# Altium schematic symbol library mw.SchLib: 179 symbols (part 1 of 2)
Pins are listed as number, name and electrical type; pins without a type are passive.

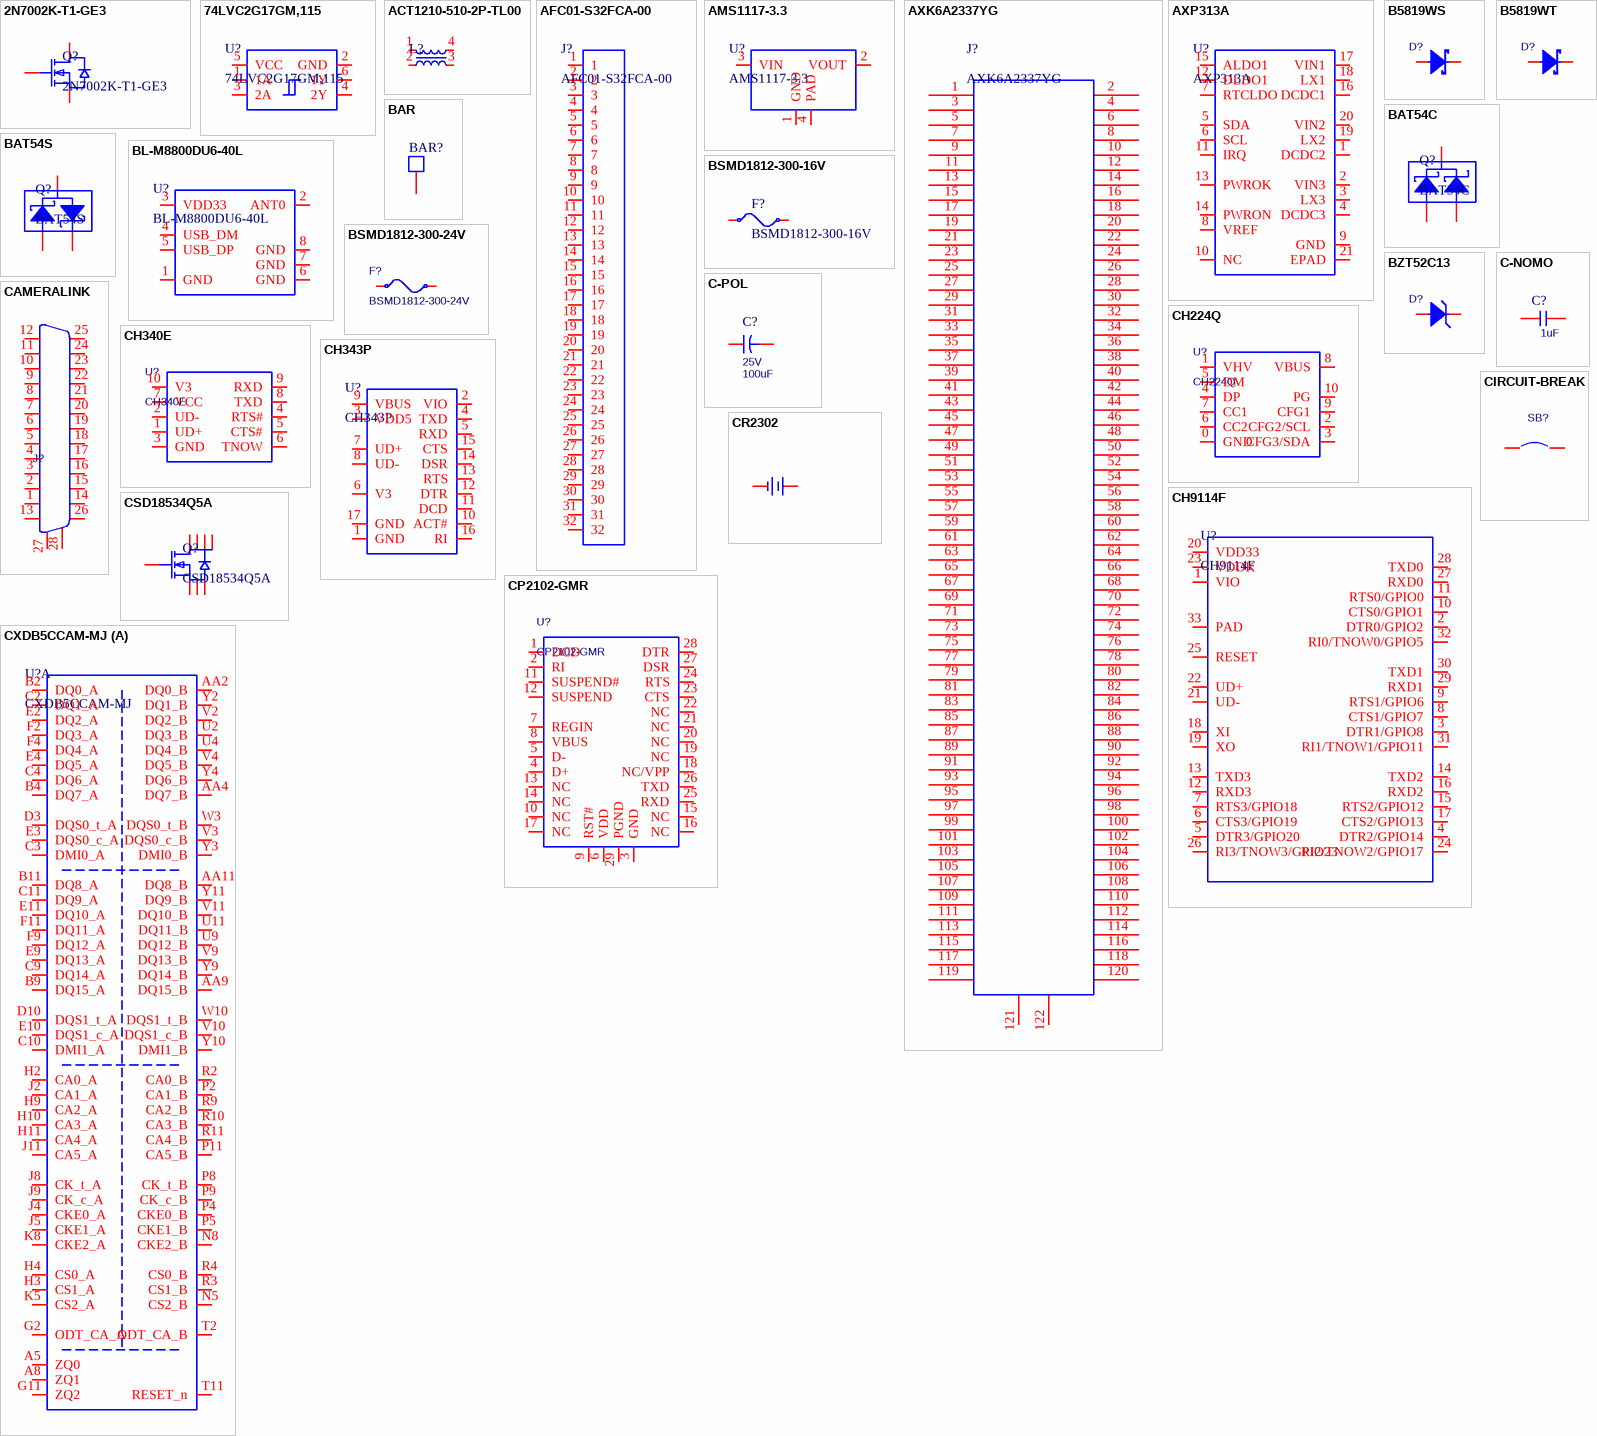
[diagram p0: symbols 2N7002K-T1-GE3 to CXDB5CCAM-MJ]

## 2N7002K-T1-GE3
designator Q?
NMOS; Supplier 1: LCSC; Supplier Part Number 1: C81445
footprint 2N7002K-T1-GE3 (SOT23, 3-Leads, Body 2.90x2.40mm, Pitch 0.95mm, IPC High Density)
pins: D, G, S

## 74LVC2G17GM,115
designator U?
SCHMITT - 2bits; Supplier 1: LCSC; Supplier Part Number 1: C548609
footprint 74LVC2G17GM,115 (PSON, 6-Leads, Body 1.45x1.00mm, Pitch 0.60mm, IPC Medium Density)
pins: 1 1A, 2 GND, 3 2A, 4 2Y, 5 VCC, 6 1Y

## ACT1210-510-2P-TL00
designator L?
CM CHOKE; Supplier 1: LCSC; Supplier Part Number 1: C95572
footprint ACT1210-510-2P-TL00
pins: 1, 2, 3, 4

## AFC01-S32FCA-00
designator J?
FPC - flip, 32p, 0.5mm; Supplier 1: LCSC; Supplier Part Number 1: C262672
footprint AFC01-S32FCA-00
pins: 1, 2, 3, 4, 5, 6, 7, 8, 9, 10, 11, 12, 13, 14, 15, 16, 17, 18, 19, 20, 21, 22, 23, 24, 25, 26, 27, 28, 29, 30, 31, 32

## AMS1117-3.3
designator U?
LDO; Supplier 1: LCSC; Supplier Part Number 1: C6186
footprint AMS1117-3.3 (SOT223, 4-Leads, Body 6.50x7.00mm (avg), Pitch 2.29mm, IPC Medium Density)
pins: 1 GND, 2 VOUT, 3 VIN, 4 PAD

## AXK6A2337YG
designator J?
B2B; Supplier 1: LCSC; Supplier Part Number 1: C2843222
footprint AXK6A2337YG
pins: 1, 2, 3, 4, 5, 6, 7, 8, 9, 10, 11, 12, 13, 14, 15, 16, 17, 18, 19, 20, 21, 22, 23, 24, 25, 26, 27, 28, 29, 30, 31, 32, 33, 34, 35, 36, 37, 38, 39, 40, 41, 42, 43, 44, 45, 46, 47, 48, 49, 50, 51, 52, 53, 54, 55, 56, 57, 58, 59, 60, 61, 62, 63, 64, 65, 66, 67, 68, 69, 70, 71, 72, 73, 74, 75, 76, 77, 78, 79, 80, 81, 82, 83, 84, 85, 86, 87, 88, 89, 90, 91, 92, 93, 94, 95, 96, 97, 98, 99, 100, 101, 102, 103, 104, 105, 106, 107, 108, 109, 110, 111, 112, 113, 114, 115, 116, 117, 118, 119, 120, 121, 122

## AXP313A
designator U?
PMIC; Supplier 1: LCSC; Supplier Part Number 1: C5365290
footprint AXP313A (QFN, 20-Leads, Body 3.00x3.00mm, Pitch 0.40mm, Thermal Pad 1.65x1.65mm, IPC Medium Density)
pins: 1 DCDC2, 2 VIN3, 3 LX3, 4 DCDC3, 5 SDA, 6 SCL, 7 RTCLDO, 8 VREF, 9 GND, 10 NC, 11 IRQ, 12 DLDO1, 13 PWROK, 14 PWRON, 15 ALDO1, 16 DCDC1, 17 VIN1, 18 LX1, 19 LX2, 20 VIN2, 21 EPAD

## B5819WS
designator D?  (value not drawn)
SCHOTTKY; Supplier 1: LCSC; Supplier Part Number 1: C7420331
footprint B5819WS (SOIC, 2-Leads, Body 1.30x1.70mm, Pitch 1.27mm, IPC Medium Density)
pins: 1, 2

## B5819WT
designator D?  (value not drawn)
SCHOTTKY; Supplier 1: LCSC; Supplier Part Number 1: C7502714
footprint B5819WT (SODFL, 2-Leads, Body 1.20x0.80mm, IPC Medium Density)
pins: 1, 2

## BAR
designator BAR?
SMD copper bar for current reinforcement
footprint BAR3X4T1
footprint BAR3X4T2
footprint BAR3X6T1
footprint BAR3X6T2
footprint BAR3X8T1
footprint BAR3X8T2
footprint BAR3X10T1
footprint BAR3X10T2
footprint BAR3X12T1
footprint BAR3X12T2
footprint BAR3X14T1
footprint BAR3X14T2
footprint BAR3X16T1
footprint BAR3X16T2
footprint BAR3X18T1
footprint BAR3X18T2
footprint BAR3X20T1
footprint BAR3X20T2
footprint BAR4X4T1
footprint BAR4X4T2
footprint BAR4X6T1
footprint BAR4X6T2
footprint BAR4X8T1
footprint BAR4X8T2
footprint BAR4X10T1
footprint BAR4X10T2
footprint BAR4X12T1
footprint BAR4X12T2
footprint BAR4X14T1
footprint BAR4X14T2
footprint BAR4X16T1
footprint BAR4X16T2
footprint BAR4X18T1
footprint BAR4X18T2
footprint BAR4X20T1
footprint BAR4X20T2
pins: 1

## BAT54C
designator Q?
SCHOTTKY; Supplier Part Number 1: C82467; Supplier 1: LCSC
footprint SOT-23
pins: 1, 2, 3

## BAT54S
designator Q?
SCHOTTKY; Supplier 1: LCSC; Supplier Part Number 1: C19726
footprint SOT-23
pins: 1, 2, 3

## BL-M8800DU6-40L
designator U?
BTWIFI; Supplier 1: taobao; Supplier Part Number 1: BL-M8800DU6-40L
footprint BL-M8800DU6-40L
pins: 1 GND, 2 ANT0, 3 VDD33, 4 USB_DM, 5 USB_DP, 6 GND, 7 GND, 8 GND

## BSMD1812-300-16V
designator F?
FUSE; Supplier 1: LCSC; Supplier Part Number 1: C883162
footprint F1812 (FUSE_1812)
pins: 1, 2

## BSMD1812-300-24V
designator F?
FUSE; Supplier 1: LCSC; Supplier Part Number 1: C7500481
footprint BSMD1812-300-24V (Chip Diode, 2-Leads, Body 7.16x3.15mm, IPC High Density)
pins: 1, 2

## BZT52C13
designator D?  (value not drawn)
ZENER; Supplier 1: LCSC; Supplier Part Number 1: C173428
footprint BZT52C13 (TSSOP, 2-Leads, Body 1.65x2.65mm, Pitch 0.50mm, IPC High Density)
pins: 1 C, 2 A

## C-NOMO
designator C?  value 1uF
voltage: 25V; precision: 5%; Supplier 1: *; Supplier Part Number 1: *
footprint C0402 (Chip Capacitor, 2-Leads, Body 1.00x0.50mm, IPC Low Density)
footprint C0603 (Chip Capacitor, 2-Leads, Body 1.60x0.80mm, IPC Low Density)
footprint C0805 (Chip Capacitor, 2-Leads, Body 2.00x1.25mm, IPC Low Density)
footprint C1206 (Chip Capacitor, 2-Leads, Body 3.20x1.60mm, IPC Low Density)
footprint C1210 (Chip Capacitor, 2-Leads, Body 3.20x2.50mm, IPC Low Density)
footprint C1812 (Chip Capacitor, 2-Leads, Body 4.50x3.20mm, IPC Low Density)
footprint C2220 (Chip Capacitor, 2-Leads, Body 5.70x5.00mm, IPC Low Density)
footprint C0201 (Chip Capacitor, 2-Leads, Body 0.60x0.30mm, IPC High Density)
pins: 1, 2

## C-POL
designator C?  value 100uF  voltage: 25V
footprint C7343 (CASE-E tan cap)
pins: 1, 2

## CAMERALINK
designator J?  (value not drawn)
footprint cameralink-12226-8250
pins: 1, 2, 3, 4, 5, 6, 7, 8, 9, 10, 11, 12, 13, 14, 15, 16, 17, 18, 19, 20, 21, 22, 23, 24, 25, 26, 27, 28

## CH224Q
designator U?
PD3.2; Supplier 1: LCSC; Supplier Part Number 1: C46061833
footprint CH224Q (PSON, 10-Leads, Body 2.00x2.00mm, Pitch 0.40mm, Thermal Pad 1.50x0.85mm, IPC Medium Density)
pins: 0 GND, 1 VHV, 2 CFG2/SCL, 3 CFG3/SDA, 4 DP, 5 DM, 6 CC2, 7 CC1, 8 VBUS, 9 CFG1, 10 PG

## CH340E
designator U?
USB UART; Supplier 1: LCSC; Supplier Part Number 1: C99652
footprint CH340E (TSSOP, 10-Leads, Body 3.00x3.00mm, Pitch 0.50mm, IPC Medium Density)
pins: 1 UD+, 2 UD-, 3 GND, 4 RTS#, 5 CTS#, 6 TNOW, 7 VCC, 8 TXD, 9 RXD, 10 V3

## CH343P
designator U?
USB UART; Supplier 1: LCSC; Supplier Part Number 1: C2846043
footprint CH343P (QFN, 16-Leads, Body 3.00x3.00mm, Pitch 0.50mm, Thermal Pad 1.75x1.75mm, IPC Medium Density)
pins: 1 GND, 2 VIO, 3 VDD5, 4 TXD, 5 RXD, 6 V3, 7 UD+, 8 UD-, 9 VBUS, 10 ACT#, 11 DCD, 12 DTR, 13 RTS, 14 DSR, 15 CTS, 16 RI, 17 GND

## CH9114F
designator U?
USB UART; Supplier 1: LCSC; Supplier Part Number 1: C46061832
footprint CH9114F (QFN, 32-Leads, Body 4.00x4.00mm, Pitch 0.40mm, Thermal Pad 2.70x2.70mm, IPC Medium Density)
pins: 1 VIO, 2 DTR0/GPIO2, 3 DTR1/GPIO8, 4 DTR2/GPIO14, 5 DTR3/GPIO20, 6 CTS3/GPIO19, 7 RTS3/GPIO18, 8 CTS1/GPIO7, 9 RTS1/GPIO6, 10 CTS0/GPIO1, 11 RTS0/GPIO0, 12 RXD3, 13 TXD3, 14 TXD2, 15 RTS2/GPIO12, 16 RXD2, 17 CTS2/GPIO13, 18 XI, 19 XO, 20 VDD33, 21 UD-, 22 UD+, 23 VDDK, 24 RI2/TNOW2/GPIO17, 25 RESET, 26 RI3/TNOW3/GPIO23, 27 RXD0, 28 TXD0, 29 RXD1, 30 TXD1, 31 RI1/TNOW1/GPIO11, 32 RI0/TNOW0/GPIO5, 33 PAD

## CIRCUIT-BREAK
designator SB?, comment Circuit Breaker  (value not drawn)
footprint CIRCUIT_BREAKER
pins: 1, 2

## CP2102-GMR
designator U?
USB UART; Supplier 1: LCSC; Supplier Part Number 1: C6568
footprint CP2102GMR (QFN, 28-Leads, Body 5.00x5.00mm, Pitch 0.50mm, Thermal Pad 3.20x3.20mm, IPC High Density)
pins: 1 DCD, 2 RI, 3 GND, 4 D+, 5 D-, 6 VDD, 7 REGIN, 8 VBUS, 9 RST#, 10 NC, 11 SUSPEND#, 12 SUSPEND, 13 NC, 14 NC, 15 NC, 16 NC, 17 NC, 18 NC/VPP, 19 NC, 20 NC, 21 NC, 22 NC, 23 CTS, 24 RTS, 25 RXD, 26 TXD, 27 DSR, 28 DTR, 29 PGND

## CR2302
designator J?  (value not drawn)
frequency: 25MHZ
footprint CR2302
pins: 1, 2

## CSD18534Q5A
designator Q?
NMOS; Supplier 1: LCSC; Supplier Part Number 1: C115943
footprint CSD18534Q5A
pins: 1 S, 2 S, 3 S, 4 G, 5 D, 6 D, 7 D, 8 D

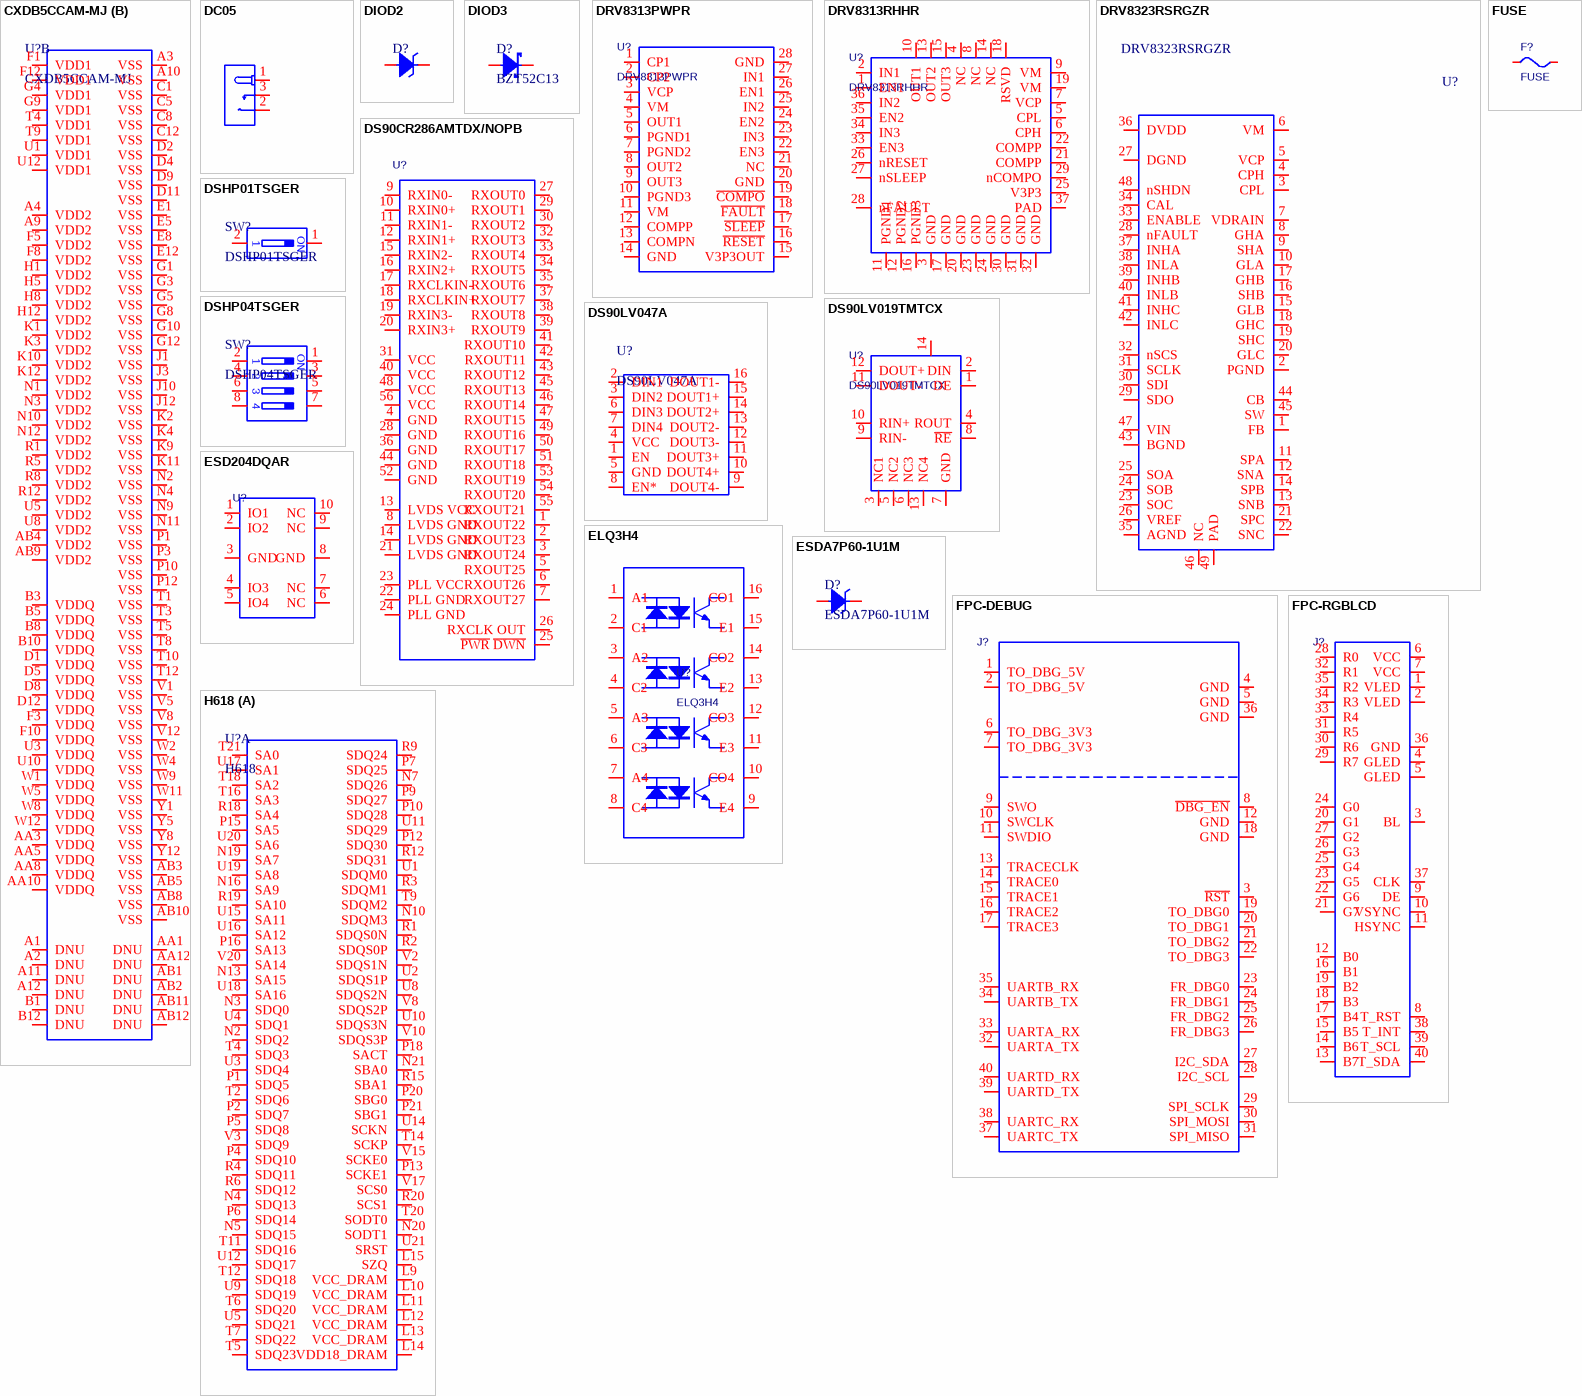
[diagram p1: symbols CXDB5CCAM-MJ to H618]

## CXDB5CCAM-MJ
designator U?
DDR - LPDDR4; Supplier 1: LCSC; Supplier Part Number 1: C39047067
footprint CXDB5CCAM-MJ (BGA, 200-Leads, Body 10.00x15.00mmx1.00mm, Pitch 0.65mm)
part A pins: A5 ZQ0, A8 ZQ1, AA2 DQ0_B, AA4 DQ7_B, AA9 DQ15_B, AA11 DQ8_B, B2 DQ0_A, B4 DQ7_A, B9 DQ15_A, B11 DQ8_A, C2 DQ1_A, C3 DMI0_A, C4 DQ6_A, C9 DQ14_A, C10 DMI1_A, C11 DQ9_A, D3 DQS0_t_A, D10 DQS1_t_A, E2 DQ2_A, E3 DQS0_c_A, E4 DQ5_A, E9 DQ13_A, E10 DQS1_c_A, E11 DQ10_A, F2 DQ3_A, F4 DQ4_A, F9 DQ12_A, F11 DQ11_A, G2 ODT_CA_A, G11 ZQ2, H2 CA0_A, H3 CS1_A, H4 CS0_A, H9 CA2_A, H10 CA3_A, H11 CA4_A, J2 CA1_A, J4 CKE0_A, J5 CKE1_A, J8 CK_t_A, J9 CK_c_A, J11 CA5_A, K5 CS2_A, K8 CKE2_A, N5 CS2_B, N8 CKE2_B, P2 CA1_B, P4 CKE0_B, P5 CKE1_B, P8 CK_t_B, P9 CK_c_B, P11 CA5_B, R2 CA0_B, R3 CS1_B, R4 CS0_B, R9 CA2_B, R10 CA3_B, R11 CA4_B, T2 ODT_CA_B, T11 RESET_n, U2 DQ3_B, U4 DQ4_B, U9 DQ12_B, U11 DQ11_B, V2 DQ2_B, V3 DQS0_c_B, V4 DQ5_B, V9 DQ13_B, V10 DQS1_c_B, V11 DQ10_B, W3 DQS0_t_B, W10 DQS1_t_B, Y2 DQ1_B, Y3 DMI0_B, Y4 DQ6_B, Y9 DQ14_B, Y10 DMI1_B, Y11 DQ9_B
part B pins: A1 DNU, A2 DNU, A3 VSS, A4 VDD2, A9 VDD2, A10 VSS, A11 DNU, A12 DNU, AA1 DNU, AA3 VDDQ, AA5 VDDQ, AA8 VDDQ, AA10 VDDQ, AA12 DNU, AB1 DNU, AB2 DNU, AB3 VSS, AB4 VDD2, AB5 VSS, AB8 VSS, AB9 VDD2, AB10 VSS, AB11 DNU, AB12 DNU, B1 DNU, B3 VDDQ, B5 VDDQ, B8 VDDQ, B10 VDDQ, B12 DNU, C1 VSS, C5 VSS, C8 VSS, C12 VSS, D1 VDDQ, D2 VSS, D4 VSS, D5 VDDQ, D8 VDDQ, D9 VSS, D11 VSS, D12 VDDQ, E1 VSS, E5 VSS, E8 VSS, E12 VSS, F1 VDD1, F3 VDDQ, F5 VDD2, F8 VDD2, F10 VDDQ, F12 VDD1, G1 VSS, G3 VSS, G4 VDD1, G5 VSS, G8 VSS, G9 VDD1, G10 VSS, G12 VSS, H1 VDD2, H5 VDD2, H8 VDD2, H12 VDD2, J1 VSS, J3 VSS, J10 VSS, J12 VSS, K1 VDD2, K2 VSS, K3 VDD2, K4 VSS, K9 VSS, K10 VDD2, K11 VSS, K12 VDD2, N1 VDD2, N2 VSS, N3 VDD2, N4 VSS, N9 VSS, N10 VDD2, N11 VSS, N12 VDD2, P1 VSS, P3 VSS, P10 VSS, P12 VSS, R1 VDD2, R5 VDD2, R8 VDD2, R12 VDD2, T1 VSS, T3 VSS, T4 VDD1, T5 VSS, T8 VSS, T9 VDD1, T10 VSS, T12 VSS, U1 VDD1, U3 VDDQ, U5 VDD2, U8 VDD2, U10 VDDQ, U12 VDD1, V1 VSS, V5 VSS, V8 VSS, V12 VSS, W1 VDDQ, W2 VSS, W4 VSS, W5 VDDQ, W8 VDDQ, W9 VSS, W11 VSS, W12 VDDQ, Y1 VSS, Y5 VSS, Y8 VSS, Y12 VSS

## DC05
designator J?
Supplier 1: LCSC; Supplier Part Number 1: C136744
footprint DC05
pins: 1, 2, 3

## DIOD2
designator D?
Supplier 1: LCSC; Supplier Part Number 1: C22365180
footprint SOD-523
footprint DO-214AC
footprint SOD-123
pins: 1, 2

## DIOD3
designator D?, comment BZT52C13
HelpURL: ./referencce/bzt52c13.pdf#page=(1); Supplier 1: Supplier 1; Supplier Part Number 1: C727005
footprint DO-214AC
footprint SOD-123
pins: 1, 2

## DRV8313PWPR
designator U?
BLDC DRV
footprint DRV8313PWPR_TSOP (TSOP, 28-Leads, Body 9.70x4.40mm, Pitch 0.65mm, IPC Medium Density)
pins: 1 CP1, 2 CP2, 3 VCP, 4 VM, 5 OUT1, 6 PGND1, 7 PGND2, 8 OUT2, 9 OUT3, 10 PGND3, 11 VM, 12 COMPP, 13 COMPN, 14 GND, 15 V3P3OUT, 16 ~{RESET}, 17 ~{SLEEP}, 18 ~{FAULT}, 19 ~{COMPO}, 20 GND, 21 NC, 22 EN3, 23 IN3, 24 EN2, 25 IN2, 26 EN1, 27 IN1, 28 GND

## DRV8313RHHR
designator U?
BLDC DRV; Supplier 1: LCSC; Supplier Part Number 1: C165154
footprint DRV8313RHHR (PQFN, 36-Leads, Body 6.00x6.00mm, Pitch 0.50mm, Thermal Pad 4.40x4.40mm, IPC Medium Density)
pins: 1 EN1, 2 IN1, 3 GND, 4 NC, 5 CPL, 6 CPH, 7 VCP, 8 NC, 9 VM, 10 OUT1, 11 PGND1, 12 PGND2, 13 OUT2, 14 NC, 15 OUT3, 16 PGND3, 17 GND, 18 RSVD, 19 VM, 20 GND, 21 COMPP, 22 COMPP, 23 GND, 24 GND, 25 V3P3, 26 nRESET, 27 nSLEEP, 28 nFAULT, 29 nCOMPO, 30 GND, 31 GND, 32 GND, 33 EN3, 34 IN3, 35 EN2, 36 IN2, 37 PAD

## DRV8323RSRGZR
designator U?
BLDC DRV; Supplier 1: LCSC; Supplier Part Number 1: C545497
footprint DRV8323RSRGZR (PQFN, 48-Leads, Body 7.00x7.00mm, Pitch 0.50mm, Thermal Pad 5.15x5.15mm, IPC Medium Density)
pins: 1 FB "Buck feedback input. A resistor divider from the buck post inductor output to this pin sets the buck output voltage.", 2 PGND "Device power ground. Connect to system ground.", 3 CPL "Charge pump switching node. Connect a X5R or X7R, 47-nF, VM-rated ceramic capacitor between the CPH and CPL pins.", 4 CPH "Charge pump switching node. Connect a X5R or X7R, 47-nF, VM-rated ceramic capacitor between the CPH and CPL pins.", 5 VCP "Charge pump output. Connect a X5R or X7R, 1-µF, 16-V ceramic capacitor between the VCP and VM pins.", 6 VM "Gate driver power supply input. Connect to the bridge power supply. Connect a X5R or X7R, 0.1-µF, VM-rated ceramic and greater then or equal to 10-uF local capacitance between the VM and PGND pins.", 7 VDRAIN "High-side MOSFET drain sense input. Connect to the common point of the MOSFET drains.", 8 GHA "High-side gate driver output. Connect to the gate of the high-side power MOSFET.", 9 SHA "High-side source sense input. Connect to the high-side power MOSFET source.", 10 GLA "Low-side gate driver output. Connect to the gate of the low-side power MOSFET.", 11 SPA "Low-side current shunt amplifier input. Connect to the low-side power MOSFET source and high-side of the current shunt resistor.", 12 SNA "Current sense amplifier input. Connect to the low-side of the current shunt resistor.", 13 SNB "Current sense amplifier input. Connect to the low-side of the current shunt resistor.", 14 SPB "Low-side current shunt amplifier input. Connect to the low-side power MOSFET source and high-side of the current shunt resistor.", 15 GLB "Low-side gate driver output. Connect to the gate of the low-side power MOSFET.", 16 SHB "High-side source sense input. Connect to the high-side power MOSFET source.", 17 GHB "High-side gate driver output. Connect to the gate of the high-side power MOSFET.", 18 GHC "High-side gate driver output. Connect to the gate of the high-side power MOSFET.", 19 SHC "High-side source sense input. Connect to the high-side power MOSFET source.", 20 GLC "Low-side gate driver output. Connect to the gate of the low-side power MOSFET.", 21 SPC "Low-side current shunt amplifier input. Connect to the low-side power MOSFET source and high-side of the current shunt resistor.", 22 SNC "Current sense amplifier input. Connect to the low-side of the current shunt resistor.", 23 SOC "Current sense amplifier output.", 24 SOB "Current sense amplifier output.", 25 SOA "Current sense amplifier output.", 26 VREF "Current sense amplifier power supply input and reference. Connect a X5R or X7R, 0.1-µF, 6.3-V ceramic capacitor between the VREF and AGND pins.", 27 DGND "Device ground. Connect to system ground.", 28 nFAULT "Fault indicator output. This pin is pulled logic low during a fault condition and requires an external pullup resistor.", 29 SDO "Serial data output. Data is shifted out on the rising edge of the SCLK pin. This pin requires an external pullup resistor.", 30 SDI "Serial data input. Data is captured on the falling edge of the SCLK pin.", 31 SCLK "Serial clock input. Serial data is shifted out and captured on the corresponding rising and falling edge on this pin.", 32 nSCS "Serial chip select. A logic low on this pin enables serial interface communication.", 33 ENABLE "Gate driver enable. When this pin is logic low the device goes to a low-power sleep mode. An 8 to 40-µs low pulse can be used to reset fault conditions.", 34 CAL "Amplifier calibration input. Set logic high to internally short amplifier inputs and perform auto offset calibration.", 35 AGND "Device analog ground. Connect to system ground.", 36 DVDD "3.3-V internal regulator output. Connect a X5R or X7R, 1-µF, 6.3-V ceramic capacitor between the DVDD and AGND pins. This regulator can source up to 30 mA externally.", 37 INHA "High-side gate driver control input. This pin controls the output of the high-side gate driver.", 38 INLA "Low-side gate driver control input. This pin controls the output of the low-side gate driver.", 39 INHB "High-side gate driver control input. This pin controls the output of the high-side gate driver.", 40 INLB "Low-side gate driver control input. This pin controls the output of the low-side gate driver.", 41 INHC "High-side gate driver control input. This pin controls the output of the high-side gate driver.", 42 INLC "Low-side gate driver control input. This pin controls the output of the low-side gate driver.", 43 BGND "Buck regulator ground. Connect to system ground.", 44 CB "Buck regulator bootstrap input. Connect a X5R or X7R, 0.1-µF, 16-V, capacitor between the CB and SW pins.", 45 SW "Buck switch node. Connect this pin to an inductor, diode, and the CB bootstrap capacitor.", 46 NC "No internal connection. This pin can be left floating or connected to system ground.", 47 VIN "Buck regulator power supply input. Place an X5R or X7R, VM-rated ceramic capacitor between the VIN and BGND pins.", 48 nSHDN "Buck shutdown input. Enable and disable input (high voltage tolerant). Internal pullup current source. Pull lower than 1.25 V to disable. Float to enable. Establish input undervoltage lockout with two resistor divider.", 49 PAD "Must be connected to ground"

## DS90CR286AMTDX/NOPB
designator U?  (value not drawn)
LVDS; Supplier 1: LCSC; Supplier Part Number 1: C311790
footprint DS90CR286AMTDX/NOPB
pins: 1 RXOUT22, 2 RXOUT23, 3 RXOUT24, 4 GND, 5 RXOUT25, 6 RXOUT26, 7 RXOUT27, 8 LVDS GND, 9 RXIN0-, 10 RXIN0+, 11 RXIN1-, 12 RXIN1+, 13 LVDS VCC, 14 LVDS GND, 15 RXIN2-, 16 RXIN2+, 17 RXCLKIN-, 18 RXCLKIN+, 19 RXIN3-, 20 RXIN3+, 21 LVDS GND, 22 PLL GND, 23 PLL VCC, 24 PLL GND, 25 ~{PWR} ~{DWN}, 26 RXCLK OUT, 27 RXOUT0, 28 GND, 29 RXOUT1, 30 RXOUT2, 31 VCC, 32 RXOUT3, 33 RXOUT4, 34 RXOUT5, 35 RXOUT6, 36 GND, 37 RXOUT7, 38 RXOUT8, 39 RXOUT9, 40 VCC, 41 RXOUT10, 42 RXOUT11, 43 RXOUT12, 44 GND, 45 RXOUT13, 46 RXOUT14, 47 RXOUT15, 48 VCC, 49 RXOUT16, 50 RXOUT17, 51 RXOUT18, 52 GND, 53 RXOUT19, 54 RXOUT20, 55 RXOUT21, 56 VCC

## DS90LV019TMTCX
designator U?
LVDS; Supplier 1: LCSC; Supplier Part Number 1: C87061
footprint DS90LV019TMTCX (TSOP, 14-Leads, Body 5.00x4.40mm, Pitch 0.65mm, IPC Medium Density)
pins: 1 DE, 2 DIN, 3 NC1, 4 ROUT, 5 NC2, 6 NC3, 7 GND, 8 ~{RE}, 9 RIN-, 10 RIN+, 11 DOUT-, 12 DOUT+, 13 NC4, 14

## DS90LV047A
designator U?
LVDS; Supplier 1: LCSC; Supplier Part Number 1: C87097
footprint DS90LV047
pins: 1 EN, 2 DIN1, 3 DIN2, 4 VCC, 5 GND, 6 DIN3, 7 DIN4, 8 EN*, 9 DOUT4-, 10 DOUT4+, 11 DOUT3+, 12 DOUT3-, 13 DOUT2-, 14 DOUT2+, 15 DOUT1+, 16 DOUT1-

## DSHP01TSGER
designator SW?
SWITCH - SPST, 1ch; Supplier 1: LCSC; Supplier Part Number 1: C3293141
footprint DSHP01TSGER
pins: 1, 2
text: ON

## DSHP04TSGER
designator SW?
SWITCH - SPST, 4ch; Supplier 1: LCSC; Supplier Part Number 1: C3293144
footprint DSHP04TSGER
pins: 1, 2, 3, 4, 5, 6, 7, 8
text: ON

## ELQ3H4
designator U?
OPTICAL COUPLER; Supplier 1: LCSC; Supplier Part Number 1: C150957
footprint ELQ3H4
pins: 1 A1, 2 C1, 3 A2, 4 C2, 5 A3, 6 C3, 7 A4, 8 C4, 9 E4, 10 CO4, 11 E3, 12 CO3, 13 E2, 14 CO2, 15 E1, 16 CO1

## ESD204DQAR
designator U?  (value not drawn)
TVS/ESD - 4 ch, 3.6V, 5V, 0.55pF@1MHz, 30KV; Supplier 1: LCSC; Supplier Part Number 1: C553132
footprint ESD204DQAR
pins: 1 IO1, 2 IO2, 3 GND, 4 IO3, 5 IO4, 6 NC, 7 NC, 8 GND, 9 NC, 10 NC

## ESDA7P60-1U1M
designator D?
TVS/ESD - 1 ch, 5V, 6V, 400pF@1MHz, 30KV; Supplier 1: LCSC; Supplier Part Number 1: C7202956
footprint ESDA7P60-1U1M (DFN, 2-Leads, Body 1.00x1.60mm, Pitch 1.10mm, IPC Medium Density)
pins: 1, 2

## FPC-DEBUG
designator J?, comment AFC01-S40FCA-00  (value not drawn)
FPC; Supplier 1: LCSC; Supplier Part Number 1: C262674
footprint AFC01-S40FCA-00
pins: 1 TO_DBG_5V, 2 TO_DBG_5V, 3 ~{RST}, 4 GND, 5 GND, 6 TO_DBG_3V3, 7 TO_DBG_3V3, 8 ~{DBG_EN}, 9 SWO, 10 SWCLK, 11 SWDIO, 12 GND, 13 TRACECLK, 14 TRACE0, 15 TRACE1, 16 TRACE2, 17 TRACE3, 18 GND, 19 TO_DBG0, 20 TO_DBG1, 21 TO_DBG2, 22 TO_DBG3, 23 FR_DBG0, 24 FR_DBG1, 25 FR_DBG2, 26 FR_DBG3, 27 I2C_SDA, 28 I2C_SCL, 29 SPI_SCLK, 30 SPI_MOSI, 31 SPI_MISO, 32 UARTA_TX, 33 UARTA_RX, 34 UARTB_TX, 35 UARTB_RX, 36 GND, 37 UARTC_TX, 38 UARTC_RX, 39 UARTD_TX, 40 UARTD_RX

## FPC-RGBLCD
designator J?, comment AFC01-S40FCA-00  (value not drawn)
FPC; Supplier 1: LCSC; Supplier Part Number 1: C262674
footprint AFC01-S40FCA-00
pins: 1 VLED, 2 VLED, 3 BL, 4 GLED, 5 GLED, 6 VCC, 7 VCC, 8 T_RST, 9 DE, 10 VSYNC, 11 HSYNC, 12 B0, 13 B7, 14 B6, 15 B5, 16 B1, 17 B4, 18 B3, 19 B2, 20 G1, 21 G7, 22 G6, 23 G5, 24 G0, 25 G4, 26 G3, 27 G2, 28 R0, 29 R7, 30 R6, 31 R5, 32 R1, 33 R4, 34 R3, 35 R2, 36 GND, 37 CLK, 38 T_INT, 39 T_SCL, 40 T_SDA

## FUSE
designator F?
footprint F1812 (FUSE_1812)
pins: 1, 2

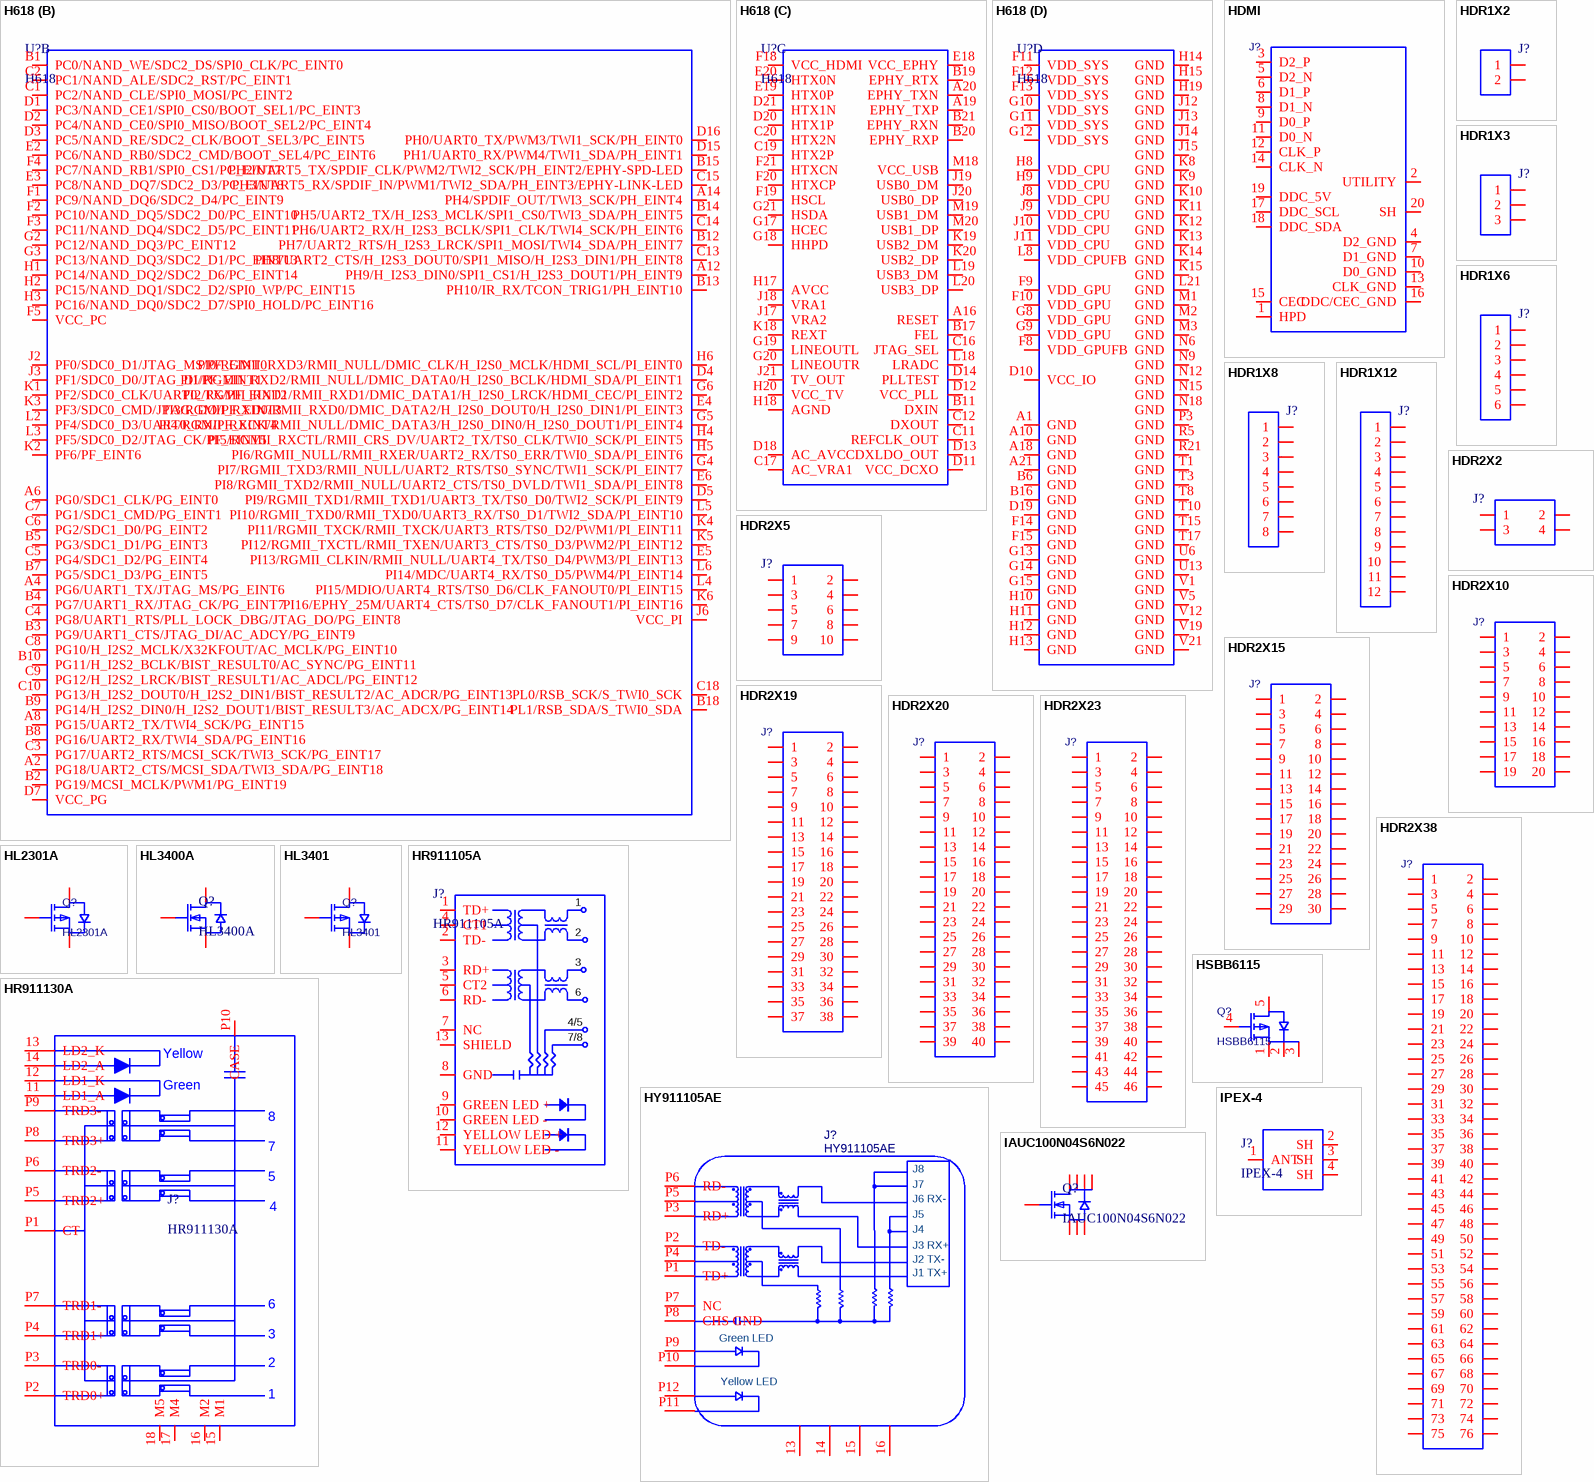
[diagram p2: symbols H618 to IPEX-4]

## H618
designator U?
SOC; Supplier 1: LCSC; Supplier Part Number 1: C19189292
footprint H618 (BGA, 284-Leads, Body 14.00x12.00mmx1.17mm, Pitch 0.65mm)
part A pins: L9 VCC_DRAM, L10 VCC_DRAM, L11 VCC_DRAM, L12 VCC_DRAM, L13 VCC_DRAM, L14 VDD18_DRAM, L15 SZQ, N2 SDQ2, N3 SDQ0, N4 SDQ13, N5 SDQ15, N7 SDQ26, N10 SDQM3, N13 SA15, N16 SA9, N19 SA7, N20 SODT1, N21 SBA0, P1 SDQ5, P2 SDQ7, P4 SDQ10, P5 SDQ8, P6 SDQ14, P7 SDQ25, P9 SDQ27, P10 SDQ28, P12 SDQ30, P13 SCKE1, P15 SA5, P16 SA13, P18 SACT, P20 SBG0, P21 SBG1, R1 SDQS0N, R2 SDQS0P, R3 SDQM1, R4 SDQ11, R6 SDQ12, R9 SDQ24, R12 SDQ31, R15 SBA1, R18 SA4, R19 SA10, R20 SCS1, T2 SDQ6, T4 SDQ3, T5 SDQ23, T6 SDQ20, T7 SDQ22, T9 SDQM2, T11 SDQ16, T12 SDQ18, T14 SCKP, T16 SA3, T18 SA2, T20 SODT0, T21 SA0, U1 SDQM0, U2 SDQS1P, U3 SDQ4, U4 SDQ1, U5 SDQ21, U8 SDQS2N, U9 SDQ19, U10 SDQS3N, U11 SDQ29, U12 SDQ17, U14 SCKN, U15 SA11, U16 SA12, U17 SA1, U18 SA16, U19 SA8, U20 SA6, U21 SRST, V2 SDQS1N, V3 SDQ9, V8 SDQS2P, V10 SDQS3P, V15 SCKE0, V17 SCS0, V20 SA14
part B pins: A2 PG18/UART2_CTS/MCSI_SDA/TWI3_SDA/PG_EINT18, A4 PG6/UART1_TX/JTAG_MS/PG_EINT6, A6 PG0/SDC1_CLK/PG_EINT0, A8 PG15/UART2_TX/TWI4_SCK/PG_EINT15, A12 PH9/H_I2S3_DIN0/SPI1_CS1/H_I2S3_DOUT1/PH_EINT9, A14 PH4/SPDIF_OUT/TWI3_SCK/PH_EINT4, B1 PC0/NAND_WE/SDC2_DS/SPI0_CLK/PC_EINT0, B2 PG19/MCSI_MCLK/PWM1/PG_EINT19, B3 PG9/UART1_CTS/JTAG_DI/AC_ADCY/PG_EINT9, B4 PG7/UART1_RX/JTAG_CK/PG_EINT7, B5 PG3/SDC1_D1/PG_EINT3, B7 PG5/SDC1_D3/PG_EINT5, B8 PG16/UART2_RX/TWI4_SDA/PG_EINT16, B9 PG14/H_I2S2_DIN0/H_I2S2_DOUT1/BIST_RESULT3/AC_ADCX/PG_EINT14, B10 PG11/H_I2S2_BCLK/BIST_RESULT0/AC_SYNC/PG_EINT11, B12 PH7/UART2_RTS/H_I2S3_LRCK/SPI1_MOSI/TWI4_SDA/PH_EINT7, B13 PH10/IR_RX/TCON_TRIG1/PH_EINT10, B14 PH5/UART2_TX/H_I2S3_MCLK/SPI1_CS0/TWI3_SDA/PH_EINT5, B15 PH2/UART5_TX/SPDIF_CLK/PWM2/TWI2_SCK/PH_EINT2/EPHY-SPD-LED, B18 PL1/RSB_SDA/S_TWI0_SDA, C1 PC2/NAND_CLE/SPI0_MOSI/PC_EINT2, C2 PC1/NAND_ALE/SDC2_RST/PC_EINT1, C3 PG17/UART2_RTS/MCSI_SCK/TWI3_SCK/PG_EINT17, C4 PG8/UART1_RTS/PLL_LOCK_DBG/JTAG_DO/PG_EINT8, C5 PG4/SDC1_D2/PG_EINT4, C6 PG2/SDC1_D0/PG_EINT2, C7 PG1/SDC1_CMD/PG_EINT1, C8 PG10/H_I2S2_MCLK/X32KFOUT/AC_MCLK/PG_EINT10, C9 PG12/H_I2S2_LRCK/BIST_RESULT1/AC_ADCL/PG_EINT12, C10 PG13/H_I2S2_DOUT0/H_I2S2_DIN1/BIST_RESULT2/AC_ADCR/PG_EINT13, C13 PH8/UART2_CTS/H_I2S3_DOUT0/SPI1_MISO/H_I2S3_DIN1/PH_EINT8, C14 PH6/UART2_RX/H_I2S3_BCLK/SPI1_CLK/TWI4_SCK/PH_EINT6, C15 PH3/UART5_RX/SPDIF_IN/PWM1/TWI2_SDA/PH_EINT3/EPHY-LINK-LED, C18 PL0/RSB_SCK/S_TWI0_SCK, D1 PC3/NAND_CE1/SPI0_CS0/BOOT_SEL1/PC_EINT3, D2 PC4/NAND_CE0/SPI0_MISO/BOOT_SEL2/PC_EINT4, D3 PC5/NAND_RE/SDC2_CLK/BOOT_SEL3/PC_EINT5, D4 PI1/RGMII_RXD2/RMII_NULL/DMIC_DATA0/H_I2S0_BCLK/HDMI_SDA/PI_EINT1, D5 PI9/RGMII_TXD1/RMII_TXD1/UART3_TX/TS0_D0/TWI2_SCK/PI_EINT9, D7 VCC_PG, D15 PH1/UART0_RX/PWM4/TWI1_SDA/PH_EINT1, D16 PH0/UART0_TX/PWM3/TWI1_SCK/PH_EINT0, E2 PC6/NAND_RB0/SDC2_CMD/BOOT_SEL4/PC_EINT6, E3 PC8/NAND_DQ7/SDC2_D3/PC_EINT8, E4 PI3/RGMII_RXD0/RMII_RXD0/DMIC_DATA2/H_I2S0_DOUT0/H_I2S0_DIN1/PI_EINT3, E5 PI13/RGMII_CLKIN/RMII_NULL/UART4_TX/TS0_D4/PWM3/PI_EINT13, E6 PI8/RGMII_TXD2/RMII_NULL/UART2_CTS/TS0_DVLD/TWI1_SDA/PI_EINT8, F1 PC9/NAND_DQ6/SDC2_D4/PC_EINT9, F2 PC10/NAND_DQ5/SDC2_D0/PC_EINT10, F3 PC11/NAND_DQ4/SDC2_D5/PC_EINT11, F4 PC7/NAND_RB1/SPI0_CS1/PC_EINT7, F5 VCC_PC, G2 PC12/NAND_DQ3/PC_EINT12, G3 PC13/NAND_DQ3/SDC2_D1/PC_EINT13, G4 PI7/RGMII_TXD3/RMII_NULL/UART2_RTS/TS0_SYNC/TWI1_SCK/PI_EINT7, G5 PI4/RGMII_RXCK/RMII_NULL/DMIC_DATA3/H_I2S0_DIN0/H_I2S0_DOUT1/PI_EINT4, G6 PI2/RGMII_RXD1/RMII_RXD1/DMIC_DATA1/H_I2S0_LRCK/HDMI_CEC/PI_EINT2, H1 PC14/NAND_DQ2/SDC2_D6/PC_EINT14, H2 PC15/NAND_DQ1/SDC2_D2/SPI0_WP/PC_EINT15, H3 PC16/NAND_DQ0/SDC2_D7/SPI0_HOLD/PC_EINT16, H4 PI5/RGMII_RXCTL/RMII_CRS_DV/UART2_TX/TS0_CLK/TWI0_SCK/PI_EINT5, H5 PI6/RGMII_NULL/RMII_RXER/UART2_RX/TS0_ERR/TWI0_SDA/PI_EINT6, H6 PI0/RGMII_RXD3/RMII_NULL/DMIC_CLK/H_I2S0_MCLK/HDMI_SCL/PI_EINT0, J2 PF0/SDC0_D1/JTAG_MS/PF_EINT0, J3 PF1/SDC0_D0/JTAG_DI/PF_EINT1, J6 VCC_PI, K1 PF2/SDC0_CLK/UART0_TX/PF_EINT2, K2 PF6/PF_EINT6, K3 PF3/SDC0_CMD/JTAG_DO/PF_EINT3, K4 PI11/RGMII_TXCK/RMII_TXCK/UART3_RTS/TS0_D2/PWM1/PI_EINT11, K5 PI12/RGMII_TXCTL/RMII_TXEN/UART3_CTS/TS0_D3/PWM2/PI_EINT12, K6 PI16/EPHY_25M/UART4_CTS/TS0_D7/CLK_FANOUT1/PI_EINT16, L2 PF4/SDC0_D3/UART0_RX/PF_EINT4, L3 PF5/SDC0_D2/JTAG_CK/PF_EINT5, L4 PI15/MDIO/UART4_RTS/TS0_D6/CLK_FANOUT0/PI_EINT15, L5 PI10/RGMII_TXD0/RMII_TXD0/UART3_RX/TS0_D1/TWI2_SDA/PI_EINT10, L6 PI14/MDC/UART4_RX/TS0_D5/PWM4/PI_EINT14
part C pins: A16 RESET, A19 EPHY_TXP, A20 EPHY_TXN, B11 DXIN, B17 FEL, B19 EPHY_RTX, B20 EPHY_RXP, B21 EPHY_RXN, C11 REFCLK_OUT, C12 DXOUT, C16 JTAG_SEL, C17 AC_VRA1, C19 HTX2P, C20 HTX2N, D11 VCC_DCXO, D12 VCC_PLL, D13 DXLDO_OUT, D14 PLLTEST, D18 AC_AVCC, D20 HTX1P, D21 HTX1N, E18 VCC_EPHY, E19 HTX0P, E20 HTX0N, F18 VCC_HDMI, F19 HSCL, F20 HTXCP, F21 HTXCN, G17 HCEC, G18 HHPD, G19 LINEOUTL, G20 LINEOUTR, G21 HSDA, H17 AVCC, H18 AGND, H20 VCC_TV, J17 VRA2, J18 VRA1, J19 USB0_DM, J20 USB0_DP, J21 TV_OUT, K18 REXT, K19 USB2_DM, K20 USB2_DP, L18 LRADC, L19 USB3_DM, L20 USB3_DP, M18 VCC_USB, M19 USB1_DM, M20 USB1_DP
part D pins: A1 GND, A10 GND, A18 GND, A21 GND, B6 GND, B16 GND, D10 VCC_IO, D19 GND, F8 VDD_GPUFB, F9 VDD_GPU, F10 VDD_GPU, F11 VDD_SYS, F12 VDD_SYS, F13 VDD_SYS, F14 GND, F15 GND, G8 VDD_GPU, G9 VDD_GPU, G10 VDD_SYS, G11 VDD_SYS, G12 VDD_SYS, G13 GND, G14 GND, G15 GND, H8 VDD_CPU, H9 VDD_CPU, H10 GND, H11 GND, H12 GND, H13 GND, H14 GND, H15 GND, H19 GND, J8 VDD_CPU, J9 VDD_CPU, J10 VDD_CPU, J11 VDD_CPU, J12 GND, J13 GND, J14 GND, J15 GND, K8 GND, K9 GND, K10 GND, K11 GND, K12 GND, K13 GND, K14 GND, K15 GND, L8 VDD_CPUFB, L21 GND, M1 GND, M2 GND, M3 GND, N6 GND, N9 GND, N12 GND, N15 GND, N18 GND, P3 GND, R5 GND, R21 GND, T1 GND, T3 GND, T8 GND, T10 GND, T15 GND, T17 GND, U6 GND, U13 GND, V1 GND, V5 GND, V12 GND, V19 GND, V21 GND

## HDMI
designator J?  (value not drawn)
Supplier 1: LCSC; Supplier Part Number 1: C711358
footprint HDMI-D
pins: 1 HPD, 2 UTILITY, 3 D2_P, 4 D2_GND, 5 D2_N, 6 D1_P, 7 D1_GND, 8 D1_N, 9 D0_P, 10 D0_GND, 11 D0_N, 12 CLK_P, 13 CLK_GND, 14 CLK_N, 15 CEC, 16 DDC/CEC_GND, 17 DDC_SCL, 18 DDC_SDA, 19 DDC_5V, 20 SH

## HDR1X2
designator J?
Supplier 1: LCSC; Supplier Part Number 1: C474881; Supplier 2: LCSC; Supplier Part Number 2: C225477; Supplier 3: LCSC; Supplier Part Number 3: C20079; Supplier 4: LCSC; Supplier Part Number 4: C475124
footprint HDR1X2 (Connector; Header; 5x2 Position)
footprint KF301-5.0-2P (5.0间距螺钉端子)
footprint XH-2A (XH2.54接线端子2P)
footprint KF141R-2.54-2P (Spring-loaded terminal block)
pins: 1, 2

## HDR1X3
designator J?
Supplier 1: LCSC; Supplier Part Number 1: C474884; Supplier 2: LCSC; Supplier Part Number 2: C609572
footprint HDR1X3 (Connector; Header; 5x2 Position)
footprint KF301-5.0-3P
pins: 1, 2, 3

## HDR1X6
designator J?
Supplier 1: LCSC; Supplier Part Number 1: C474881; Supplier 2: LCSC; Supplier Part Number 2: C225477; Supplier 3: LCSC; Supplier Part Number 3: C20079; Supplier 4: LCSC; Supplier Part Number 4: C475128
footprint KF301-5.0-6P
footprint KF141R-2.54-6P (Spring-loaded terminal block)
pins: 1, 2, 3, 4, 5, 6

## HDR1X8
designator J?
Supplier 1: LCSC; Supplier Part Number 1: C474881; Supplier 2: LCSC; Supplier Part Number 2: C225477; Supplier 3: LCSC; Supplier Part Number 3: C20079
footprint KF301-5.0-8P
footprint KF15EDGK-3.81-8P
pins: 1, 2, 3, 4, 5, 6, 7, 8

## HDR1X12
designator J?
Supplier 1: LCSC; Supplier Part Number 1: C2840012; Supplier 2: LCSC; Supplier Part Number 2: C475133
footprint HDR1X12 (Connector; Header; 5x2 Position)
footprint KF141R-2.54-12P (Spring-loaded terminal block)
pins: 1, 2, 3, 4, 5, 6, 7, 8, 9, 10, 11, 12

## HDR2X2
designator J?
Supplier 1: LCSC; Supplier Part Number 1: C225517
footprint HDR2X2 (Connector; Header)
pins: 1, 2, 3, 4

## HDR2X5
designator J?
Supplier 1: LCSC; Supplier 2: LCSC; Supplier Part Number 2: C5665; Supplier Part Number 3: C22392240; Supplier 3: LCSC; Supplier Part Number 4: C3975188; Supplier 4: LCSC; Supplier Part Number 1: C225520
footprint HDR2X5 (Connector; Header; 5x2 Position)
footprint HDR2X5-NJ
footprint HDR2X5-1.27-SMD (Connector; Header; 5x2 Position)
pins: 1, 2, 3, 4, 5, 6, 7, 8, 9, 10

## HDR2X10
designator J?
Supplier 1: LCSC; Supplier Part Number 1: C124359; Supplier 2: LCSC; Supplier Part Number 2: C3405
footprint HDR2X10-NJ
footprint HDR2X10 (Connector; Header;)
pins: 1, 2, 3, 4, 5, 6, 7, 8, 9, 10, 11, 12, 13, 14, 15, 16, 17, 18, 19, 20

## HDR2X15
designator J?  (value not drawn)
Supplier 1: LCSC; Supplier Part Number 1: C124359; Supplier 2: LCSC; Supplier Part Number 2: C3405
footprint HDR2X15 (Connector; Header;)
pins: 1, 2, 3, 4, 5, 6, 7, 8, 9, 10, 11, 12, 13, 14, 15, 16, 17, 18, 19, 20, 21, 22, 23, 24, 25, 26, 27, 28, 29, 30

## HDR2X19
designator J?
Supplier 1: LCSC; Supplier Part Number 1: C124383
footprint HDR2X19-1.27-SMD
pins: 1, 2, 3, 4, 5, 6, 7, 8, 9, 10, 11, 12, 13, 14, 15, 16, 17, 18, 19, 20, 21, 22, 23, 24, 25, 26, 27, 28, 29, 30, 31, 32, 33, 34, 35, 36, 37, 38

## HDR2X20
designator J?
Supplier 1: LCSC; Supplier Part Number 1: C124383
footprint HDR2X20 (Connector; Header;)
pins: 1, 2, 3, 4, 5, 6, 7, 8, 9, 10, 11, 12, 13, 14, 15, 16, 17, 18, 19, 20, 21, 22, 23, 24, 25, 26, 27, 28, 29, 30, 31, 32, 33, 34, 35, 36, 37, 38, 39, 40

## HDR2X23
designator J?
footprint HDR2X23-1.27-SMD
pins: 1, 2, 3, 4, 5, 6, 7, 8, 9, 10, 11, 12, 13, 14, 15, 16, 17, 18, 19, 20, 21, 22, 23, 24, 25, 26, 27, 28, 29, 30, 31, 32, 33, 34, 35, 36, 37, 38, 39, 40, 41, 42, 43, 44, 45, 46

## HDR2X38
designator J?
footprint HDR2X38-1.27-SMD
pins: 1, 2, 3, 4, 5, 6, 7, 8, 9, 10, 11, 12, 13, 14, 15, 16, 17, 18, 19, 20, 21, 22, 23, 24, 25, 26, 27, 28, 29, 30, 31, 32, 33, 34, 35, 36, 37, 38, 39, 40, 41, 42, 43, 44, 45, 46, 47, 48, 49, 50, 51, 52, 53, 54, 55, 56, 57, 58, 59, 60, 61, 62, 63, 64, 65, 66, 67, 68, 69, 70, 71, 72, 73, 74, 75, 76

## HL2301A
designator Q?
PMOS; Supplier 1: LCSC; Supplier Part Number 1: C7420344
footprint HL2301A (SOT23, 3-Leads, Body 2.90x2.40mm, Pitch 0.95mm, IPC Medium Density)
pins: D, G, S

## HL3400A
designator Q?
NMOS; Supplier 1: LCSC; Supplier Part Number 1: C7420348
footprint HL3400A (SOT23, 3-Leads, Body 2.90x2.40mm, Pitch 0.95mm, IPC Medium Density)
pins: D, G, S

## HL3401
designator Q?
PMOS; Supplier 1: LCSC; Supplier Part Number 1: C22469449
footprint HL3401 (SOT23, 3-Leads, Body 2.90x2.40mm, Pitch 0.95mm, IPC Medium Density)
pins: D, G, S

## HR911105A
designator J?
RJ45 - 100Mbps, Mag, LED; Supplier 1: LCSC; Supplier Part Number 1: C12074
footprint HR911105A
pins: 1 TD+, 2 TD-, 3 RD+, 4 CT1, 5 CT2, 6 RD-, 7 NC, 8 GND, 9 GREEN LED +, 10 GREEN LED -, 11 YELLOW LED -, 12 YELLOW LED +, 13 SHIELD
text: 4/5; 7/8

## HR911130A
designator J?
RJ45 - 1000Mbps, Mag, LED; Supplier 1: LCSC; Supplier Part Number 1: C54408
footprint RJ45-GE
pins: 11 LD1_A, 12 LD1_K, 13 LD2_K, 14 LD2_A, 15 M1, 16 M2, 17 M4, 18 M5, P1 CT, P2 TRD0+, P3 TRD0-, P4 TRD1+, P5 TRD2+, P6 TRD2-, P7 TRD1-, P8 TRD3+, P9 TRD3-, P10 CASE
text: Yellow; Green; 8; 7; 5; 4; 6; 3; 2; 1

## HSBB6115
designator Q?
PMOS; Supplier 1: LCSC; Supplier Part Number 1: C845604
footprint HSBB6115
pins: 1 S, 2 S, 3 S, 4 G, 5 D

## HY911105AE
designator J?
RJ45; Supplier 1: LCSC; Supplier Part Number 1: C69427
footprint RJ45
pins: 13, 14, 15, 16, P1 TD+, P2 TD-, P3 RD+, P4 4, P5 5, P6 RD-, P7 NC, P8 CHS GND, P9 9, P10 10, P11 11, P12 12
text: J8; J7; J6 RX-; J5; J4; J3 RX+; J2 TX-; J1 TX+; Green LED; Yellow LED

## IAUC100N04S6N022
designator Q?
NMOS; Supplier 1: LCSC; Supplier Part Number 1: C535695
footprint IAUC100N04S6N022
pins: 1 S, 2 S, 3 S, 4 G, 5 D, 6 D, 7 D, 8 D

## IPEX-4
designator J?
SOCKET - RF; Suppiler 1: LCSC; Supplier Part Number 1: C47986642
footprint IPEX-4
pins: 1 ANT, 2 SH, 3 SH, 4 SH

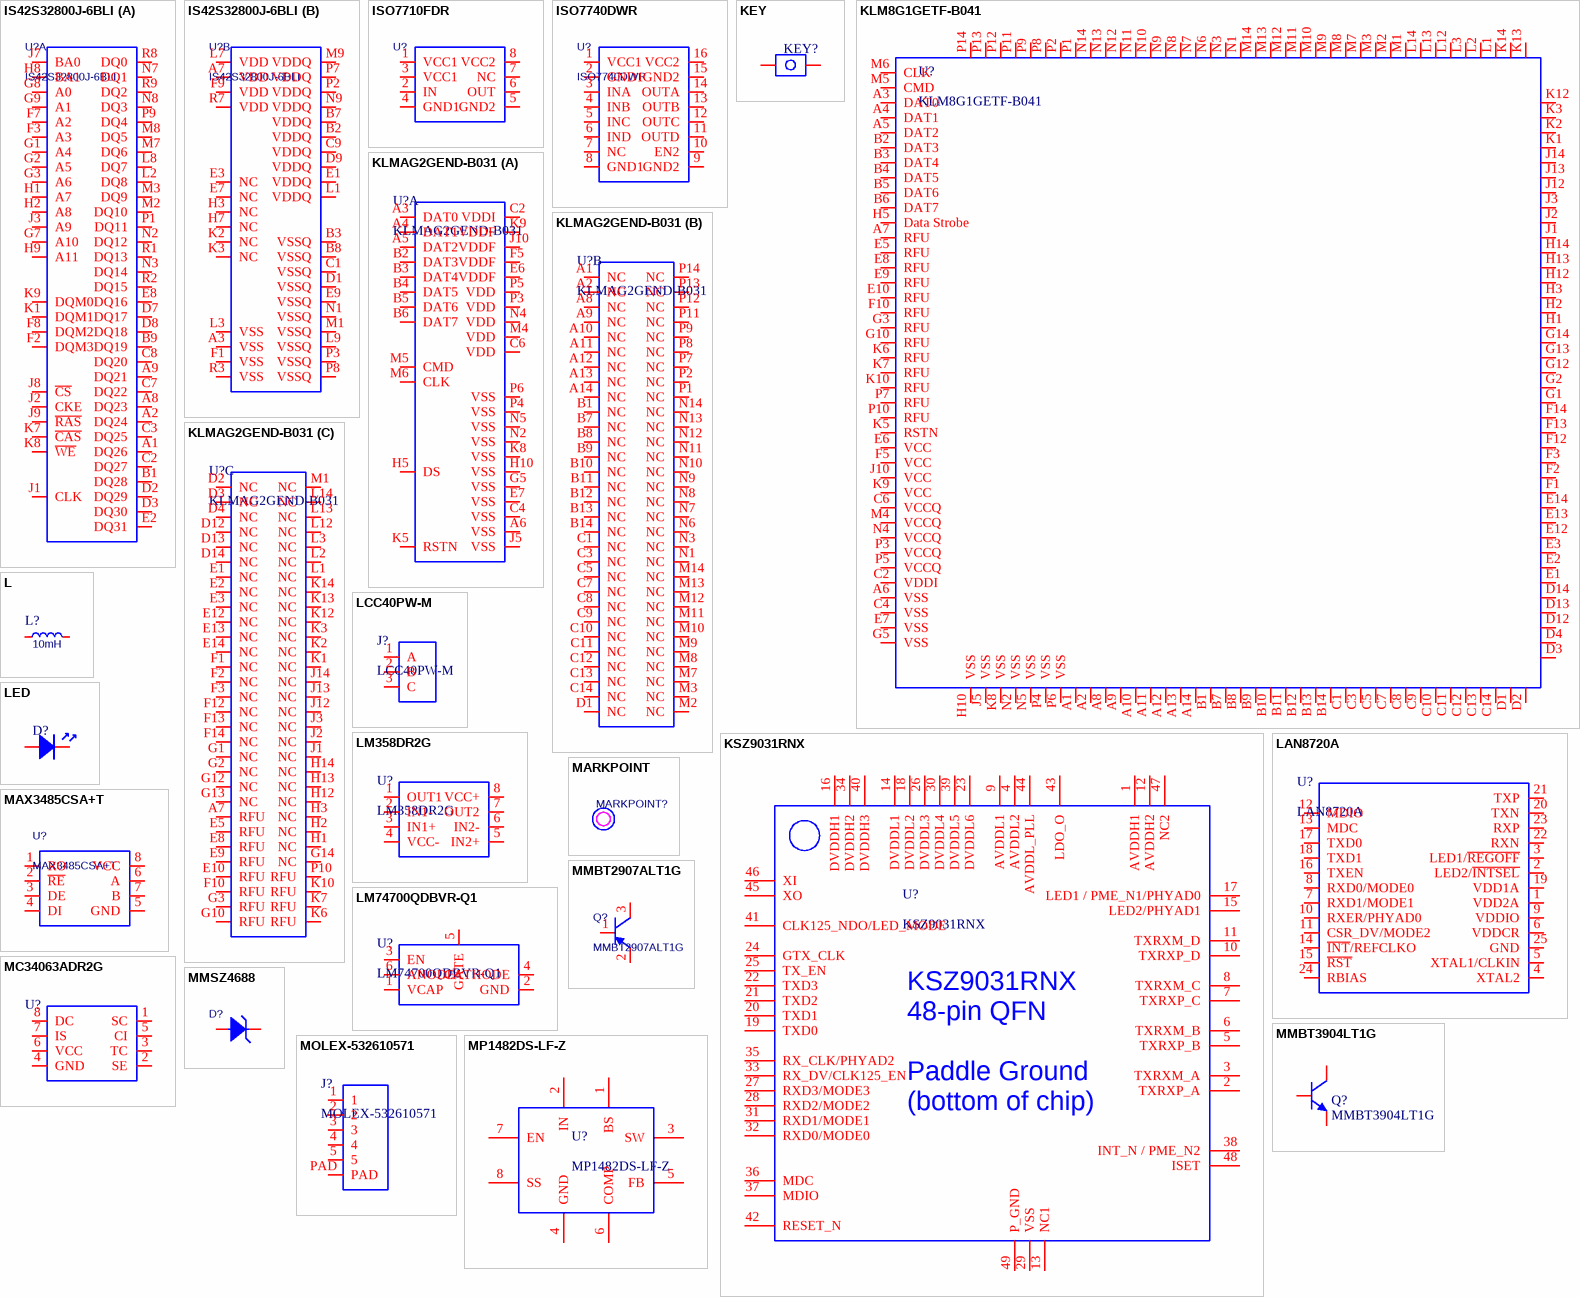
[diagram p3: symbols IS42S32800J-6BLI to MP1482DS-LF-Z]

## IS42S32800J-6BLI
designator U?
SDRAM; Supplier 1: LCSC; Supplier Part Number 1: C1351419
footprint IS42S32800J-6BLI (BGA, 90-Leads, Body 8.00x13.00mmx1.20mm, Pitch 0.80mm)
part A pins: A1 DQ26, A2 DQ24, A8 DQ23, A9 DQ21, B1 DQ28, B9 DQ19, C2 DQ27, C3 DQ25, C7 DQ22, C8 DQ20, D2 DQ29, D3 DQ30, D7 DQ17, D8 DQ18, E2 DQ31, E8 DQ16, F2 DQM3, F3 A3, F7 A2, F8 DQM2, G1 A4, G2 A5, G3 A6, G7 A10, G8 A0, G9 A1, H1 A7, H2 A8, H8 BA1, H9 A11, J1 CLK, J2 CKE, J3 A9, J7 BA0, J8 ~{CS}, J9 ~{RAS}, K1 DQM1, K7 ~{CAS}, K8 ~{WE}, K9 DQM0, L2 DQ8, L8 DQ7, M2 DQ10, M3 DQ9, M7 DQ6, M8 DQ5, N2 DQ12, N3 DQ14, N7 DQ1, N8 DQ3, P1 DQ11, P9 DQ4, R1 DQ13, R2 DQ15, R8 DQ0, R9 DQ2
part B pins: A3 VSS, A7 VDD, B2 VDDQ, B3 VSSQ, B7 VDDQ, B8 VSSQ, C1 VSSQ, C9 VDDQ, D1 VSSQ, D9 VDDQ, E1 VDDQ, E3 NC, E7 NC, E9 VSSQ, F1 VSS, F9 VDD, H3 NC, H7 NC, K2 NC, K3 NC, L1 VDDQ, L3 VSS, L7 VDD, L9 VSSQ, M1 VSSQ, M9 VDDQ, N1 VSSQ, N9 VDDQ, P2 VDDQ, P3 VSSQ, P7 VDDQ, P8 VSSQ, R3 VSS, R7 VDD

## ISO7710FDR
designator U?  (value not drawn)
ISOLATOR; Supplier 1: LCSC; Supplier Part Number 1: C2865544
footprint ISO7710FDR (SOIC, 8-Leads, Body 4.91x3.90mm, Pitch 1.27mm, IPC Medium Density)
pins: 1 VCC1, 2 IN, 3 VCC1, 4 GND1, 5 GND2, 6 OUT, 7 NC, 8 VCC2

## ISO7740DWR
designator U?
ISOLATOR; Supplier 1: LCSC; Supplier Part Number 1: C529547
footprint ISO7740DWR (SOIC, 16-Leads, Body 10.30x7.50mm, Pitch 1.27mm, IPC Medium Density)
pins: 1 VCC1, 2 GND1, 3 INA, 4 INB, 5 INC, 6 IND, 7 NC, 8 GND1, 9 GND2, 10 EN2, 11 OUTD, 12 OUTC, 13 OUTB, 14 OUTA, 15 GND2, 16 VCC2

## KEY
designator KEY?
Supplier 1: LCSC; Supplier Part Number 1: C136741; Supplier Part Number 2: C2888456
footprint KEY735SO
pins: 1, 2

## KLM8G1GETF-B041
designator U?
EMMC; Supplier 1: LCSC; Supplier Part Number 1: C499918
footprint KLM8G1GETF
pins: A1, A2, A3 DAT0, A4 DAT1, A5 DAT2, A6 VSS, A7 RFU, A8, A9, A10, A11, A12, A13, A14, B1, B2 DAT3, B3 DAT4, B4 DAT5, B5 DAT6, B6 DAT7, B7, B8, B9, B10, B11, B12, B13, B14, C1, C2 VDDI, C3, C4 VSS, C5, C6 VCCQ, C7, C8, C9, C10, C11, C12, C13, C14, D1, D2, D3, D4, D12, D13, D14, E1, E2, E3, E5 RFU, E6 VCC, E7 VSS, E8 RFU, E9 RFU, E10 RFU, E12, E13, E14, F1, F2, F3, F5 VCC, F10 RFU, F12, F13, F14, G1, G2, G3 RFU, G5 VSS, G10 RFU, G12, G13, G14, H1, H2, H3, H5 Data Strobe, H10 VSS, H12, H13, H14, J1, J2, J3, J5 VSS, J10 VCC, J12, J13, J14, K1, K2, K3, K5 RSTN, K6 RFU, K7 RFU, K8 VSS, K9 VCC, K10 RFU, K12, K13, K14, L1, L2, L3, L12, L13, L14, M1, M2, M3, M4 VCCQ, M5 CMD, M6 CLK, M7, M8, M9, M10, M11, M12, M13, M14, N1, N2 VSS, N3, N4 VCCQ, N5 VSS, N6, N7, N8, N9, N10, N11, N12, N13, N14, P1, P2, P3 VCCQ, P4 VSS, P5 VCCQ, P6 VSS, P7 RFU, P8, P9, P10 RFU, P11, P12, P13, P14

## KLMAG2GEND-B031
designator U?
EMMC; Supplier 1: Win Source; Supplier Part Number 1: 826874-KLMAG2GEND-B031
footprint KLMAG2GEND-B031 (BGA, 153-Leads, Body 11.50x13.00mmx1.00mm, Pitch 0.50mm)
part A pins: A3 DAT0, A4 DAT1, A5 DAT2, A6 VSS, B2 DAT3, B3 DAT4, B4 DAT5, B5 DAT6, B6 DAT7, C2 VDDI, C4 VSS, C6 VDD, E6 VDDF, E7 VSS, F5 VDDF, G5 VSS, H5 DS, H10 VSS, J5 VSS, J10 VDDF, K5 RSTN, K8 VSS, K9 VDDF, M4 VDD, M5 CMD, M6 CLK, N2 VSS, N4 VDD, N5 VSS, P3 VDD, P4 VSS, P5 VDD, P6 VSS
part B pins: A1 NC, A2 NC, A8 NC, A9 NC, A10 NC, A11 NC, A12 NC, A13 NC, A14 NC, B1 NC, B7 NC, B8 NC, B9 NC, B10 NC, B11 NC, B12 NC, B13 NC, B14 NC, C1 NC, C3 NC, C5 NC, C7 NC, C8 NC, C9 NC, C10 NC, C11 NC, C12 NC, C13 NC, C14 NC, D1 NC, M2 NC, M3 NC, M7 NC, M8 NC, M9 NC, M10 NC, M11 NC, M12 NC, M13 NC, M14 NC, N1 NC, N3 NC, N6 NC, N7 NC, N8 NC, N9 NC, N10 NC, N11 NC, N12 NC, N13 NC, N14 NC, P1 NC, P2 NC, P7 NC, P8 NC, P9 NC, P11 NC, P12 NC, P13 NC, P14 NC
part C pins: A7 RFU, D2 NC, D3 NC, D4 NC, D12 NC, D13 NC, D14 NC, E1 NC, E2 NC, E3 NC, E5 RFU, E8 RFU, E9 RFU, E10 RFU, E12 NC, E13 NC, E14 NC, F1 NC, F2 NC, F3 NC, F10 RFU, F12 NC, F13 NC, F14 NC, G1 NC, G2 NC, G3 RFU, G10 RFU, G12 NC, G13 NC, G14 NC, H1 NC, H2 NC, H3 NC, H12 NC, H13 NC, H14 NC, J1 NC, J2 NC, J3 NC, J12 NC, J13 NC, J14 NC, K1 NC, K2 NC, K3 NC, K6 RFU, K7 RFU, K10 RFU, K12 NC, K13 NC, K14 NC, L1 NC, L2 NC, L3 NC, L12 NC, L13 NC, L14 NC, M1 NC, P10 RFU

## KSZ9031RNX
designator U?
ETH; Supplier 1: LCSC; Supplier Part Number 1: C58758
footprint KSZ9031 (QFN, 48-Leads, Body 7.00x7.00mm, Pitch 0.50mm, Thermal Pad 5.10x5.10mm, IPC High Density)
pins: 1 AVDDH1, 2 TXRXP_A, 3 TXRXM_A, 4 AVDDL2, 5 TXRXP_B, 6 TXRXM_B, 7 TXRXP_C, 8 TXRXM_C, 9 AVDDL1, 10 TXRXP_D, 11 TXRXM_D, 12 AVDDH2, 13 NC1, 14 DVDDL1, 15 LED2/PHYAD1, 16 DVDDH1, 17 LED1 / PME_N1/PHYAD0, 18 DVDDL2, 19 TXD0, 20 TXD1, 21 TXD2, 22 TXD3, 23 DVDDL6, 24 GTX_CLK, 25 TX_EN, 26 DVDDL3, 27 RXD3/MODE3, 28 RXD2/MODE2, 29 VSS, 30 DVDDL4, 31 RXD1/MODE1, 32 RXD0/MODE0, 33 RX_DV/CLK125_EN, 34 DVDDH2, 35 RX_CLK/PHYAD2, 36 MDC, 37 MDIO, 38 INT_N / PME_N2, 39 DVDDL5, 40 DVDDH3, 41 CLK125_NDO/LED_MODE, 42 RESET_N, 43 LDO_O, 44 AVDDL_PLL, 45 XO, 46 XI, 47 NC2, 48 ISET, 49 P_GND
text: KSZ9031RNX / 48-pin QFN / Paddle Ground / (bottom of chip)

## L
designator L?  value 10mH
Code_IEC: 1005; Published: 8-Jun-2000; LatestRevisionDate: 29-May-2009; LatestRevisionNote: IPC-7351 Footprint Added.; PackageReference: 0402-A; Publisher: Altium Limited; PackageDescription: Chip Inductor; Code_JEITA: 0402
footprint FXL0624
footprint FXL1360
footprint FXL0420
footprint L0201 (Chip Inductor, 2-Leads, Body 0.60x0.30mm, IPC Medium Density)
footprint L0402 (Chip Inductor, 2-Leads, Body 1.00x0.50mm, IPC Medium Density)
footprint L0603 (Chip Inductor, 2-Leads, Body 1.60x0.80mm, IPC Medium Density)
footprint L0805 (Chip Inductor, 2-Leads, Body 2.00x1.25mm, IPC Medium Density)
footprint L1206 (Chip Inductor, 2-Leads, Body 3.20x1.60mm, IPC Medium Density)
footprint L1806 (Chip Inductor, 2-Leads, Body 4.50x1.60mm, IPC Medium Density)
footprint FXL0530
footprint FTC252010 (DFN, 2-Leads, Body 2.50x2.00mm, Pitch 1.65mm, IPC Medium Density)
footprint FTC252012 (DFN, 2-Leads, Body 2.50x2.00mm, Pitch 1.65mm, IPC Medium Density)
footprint FTC252055 (DFN, 2-Leads, Body 2.50x2.00mm, Pitch 1.65mm, IPC Medium Density)
pins: 1, 2

## LAN8720A
designator U?
ETH; Supplier 1: LCSC; Supplier Part Number 1: C45223
footprint LAN8720 (QFN, 24-Leads, Body 4.00x4.00mm, Pitch 0.50mm, Thermal Pad 2.50x2.50mm, IPC High Density)
pins: 1 VDD2A, 2 LED2/~{INTSEL}, 3 LED1/~{REGOFF}, 4 XTAL2, 5 XTAL1/CLKIN, 6 VDDCR, 7 RXD1/MODE1, 8 RXD0/MODE0, 9 VDDIO, 10 RXER/PHYAD0, 11 CSR_DV/MODE2, 12 MDIO, 13 MDC, 14 ~{INT}/REFCLKO, 15 ~{RST}, 16 TXEN, 17 TXD0, 18 TXD1, 19 VDD1A, 20 TXN, 21 TXP, 22 RXN, 23 RXP, 24 RBIAS, 25 GND

## LCC40PW-M
designator J?
CONNECTOR - 3pin, power; Supplier 1: LCSC; Supplier Part Number 1: C7437310
footprint LCC40PW-M
pins: 1 A, 2 B, 3 C

## LED
designator D?
footprint LED0603 (Chip LED, 2-Leads, Body 1.60x0.80mm, IPC High Density)
pins: 1, 2

## LM358DR2G
designator U?
OP AMP; Supplier 1: LCSC; Supplier Part Number 1: C2936099
pins: 1 OUT1, 2 IN1-, 3 IN1+, 4 VCC-, 5 IN2+, 6 IN2-, 7 OUT2, 8 VCC+

## LM74700QDBVR-Q1
designator U?
IDEAL DIODE; Supplier Part Number 1: C2941042; Supplier 1: LCSC
footprint LM74700QDBVR-Q1 (SOT23, 6-Leads, Body 2.90x2.80mm, Pitch 0.95mm, IPC Medium Density)
pins: 1 VCAP, 2 GND, 3 EN, 4 CATHODE, 5 GATE, 6 ANODE

## MARKPOINT
designator MARKPOINT?
footprint MARKPOINT-1.0

## MAX3485CSA+T
designator U?
RS485; Supplier 1: LCSC; Supplier Part Number 1: C1121852
footprint MAX3485CSA
pins: 1 RO, 2 ~{RE}, 3 DE, 4 DI, 5 GND, 6 A, 7 B, 8 VCC

## MC34063ADR2G
designator U?  (value not drawn)
UP/DOWN/INVERT REGULATOR; Supplier 1: LCSC; Supplier Part Number 1: C32078
footprint MC34063
pins: 1 SC, 2 SE, 3 TC, 4 GND, 5 CI, 6 VCC, 7 IS, 8 DC

## MMBT2907ALT1G
designator Q?
PNP; Supplier 1: LCSC; Supplier Part Number 1: C40752
footprint MMBT2907ALT1G (SOT23, 3-Leads, Body 2.85x2.25mm, Pitch 0.95mm, IPC High Density)
pins: 1 B, 2 E, 3 C

## MMBT3904LT1G
designator Q?
NPN; Supplier 1: LCSC; Supplier Part Number 1: C81464
footprint MMBT3904LT1G
pins: 1 B, 2 E, 3 C

## MMSZ4688
designator D?  (value not drawn)
ZENER; Supplier 1: LCSC; Supplier Part Number 1: C22395547
footprint MMSZ4688 (TSOP, 2-Leads, Body 1.60x2.70mm, Pitch 0.80mm, IPC Medium Density)
pins: 1 C, 2 A

## MOLEX-532610571
designator J?
HEADER - 1.25 - 5p; Supplier 1: LCSC; Supplier Part Number 1: C668616; Supplier 2: LCSC; Supplier Part Number 2: C17256390
footprint MOLEX-532610571
pins: 1, 2, 3, 4, 5, PAD

## MP1482DS-LF-Z
designator U?
BUCK; Supplier 1: LCSC; Supplier Part Number 1: C14867
footprint MP1482
pins: 1 BS, 2 IN, 3 SW, 4 GND, 5 FB, 6 COMP, 7 EN, 8 SS

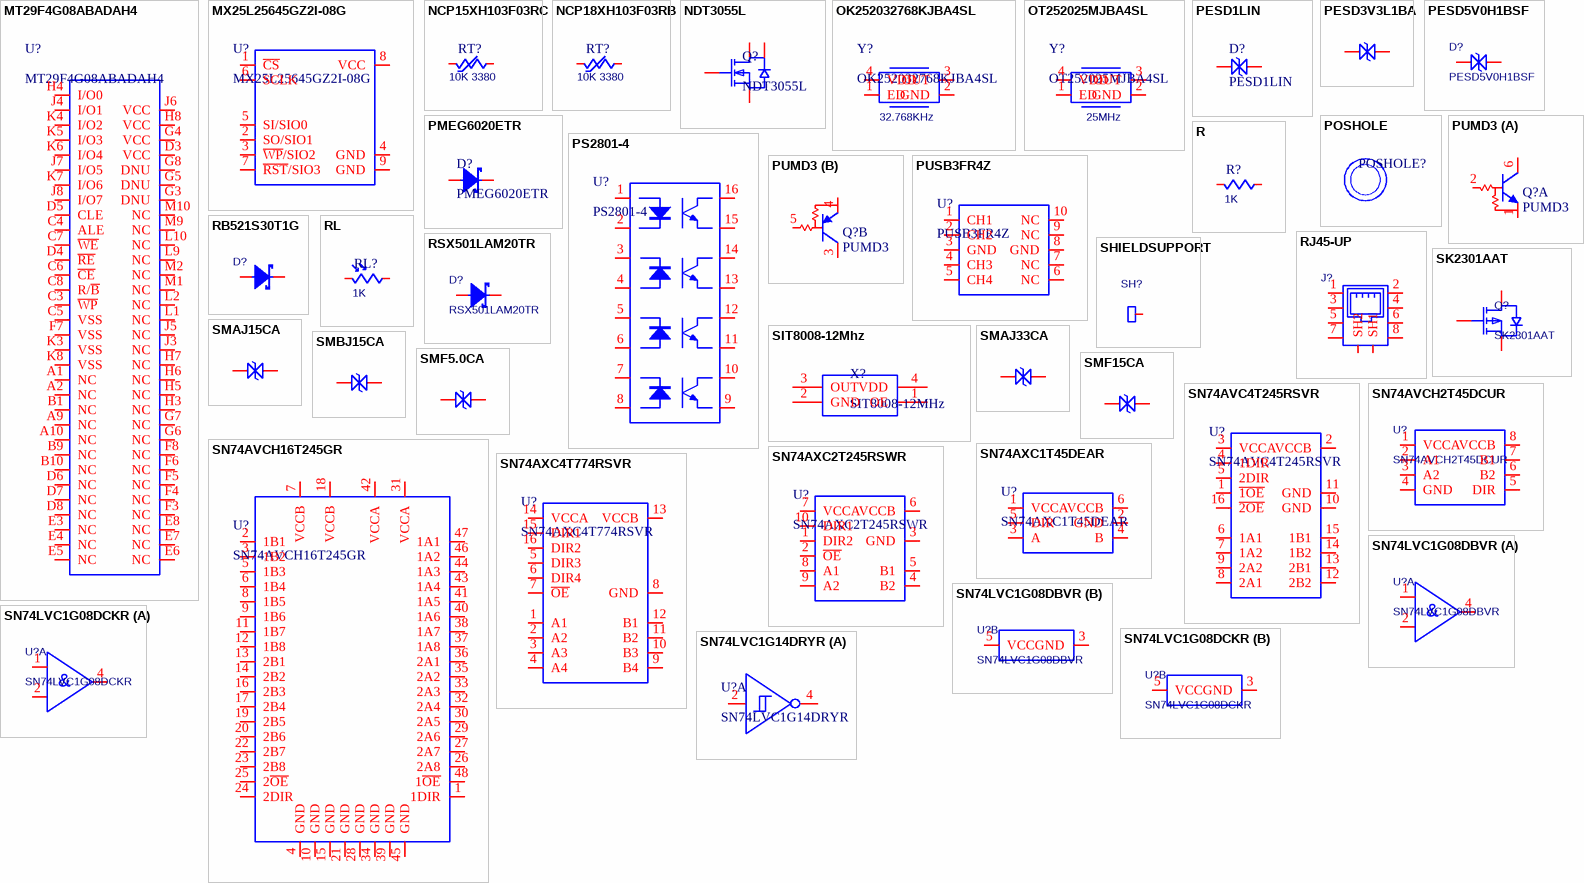
[diagram p4: symbols MT29F4G08ABADAH4 to SN74LVC1G14DRYR]

## MT29F4G08ABADAH4
designator U?
NAND FLASH; Supplier 1: LCSC; Supplier Part Number 1: C428478
footprint MT29F4G08ABADAH4 (BGA, 63-Leads, Body 9.00x11.00mmx1.00mm, Pitch 0.80mm)
pins: A1 NC, A2 NC, A9 NC, A10 NC, B1 NC, B9 NC, B10 NC, C3 ~{WP}, C4 ALE, C5 VSS, C6 ~{CE}, C7 ~{WE}, C8 R/~{B}, D3 VCC, D4 ~{RE}, D5 CLE, D6 NC, D7 NC, D8 NC, E3 NC, E4 NC, E5 NC, E6 NC, E7 NC, E8 NC, F3 NC, F4 NC, F5 NC, F6 NC, F7 VSS, F8 NC, G3 DNU, G4 VCC, G5 DNU, G6 NC, G7 NC, G8 DNU, H3 NC, H4 I/O0, H5 NC, H6 NC, H7 NC, H8 VCC, J3 NC, J4 I/O1, J5 NC, J6 VCC, J7 I/O5, J8 I/O7, K3 VSS, K4 I/O2, K5 I/O3, K6 I/O4, K7 I/O6, K8 VSS, L1 NC, L2 NC, L9 NC, L10 NC, M1 NC, M2 NC, M9 NC, M10 NC

## MX25L25645GZ2I-08G
designator U?
NOR FLASH; Supplier 1: LCSC; Supplier Part Number 1: C2802978
footprint MX25L25645GZ2I-08G (SON, 8-Leads, Body 6.00x8.00mm, Pitch 1.27mm, Thermal Pad 4.60x4.70mm, IPC Medium Density)
pins: 1 ~{CS}, 2 SO/SIO1, 3 ~{WP}/SIO2, 4 GND, 5 SI/SIO0, 6 SCLK, 7 ~{RST}/SIO3, 8 VCC, 9 GND

## NCP15XH103F03RC
designator RT?  value 10K 3380  (hidden comment: NCP15XH103F03RC)
NTC - 10K, 3380, 1%; precision: 1%; Supplier Part Number 1: C13564; Supplier 1: LCSC
footprint NTC0402 (Chip Resistor, 2-Leads, Body 1.00x0.50mm, IPC Medium Density)
pins: 1, 2

## NCP18XH103F03RB
designator RT?  value 10K 3380  (hidden comment: NCP18XH103F03RB)
NTC - 10K, 3380, 1%; precision: 1%; Supplier Part Number 1: C13564; Supplier 1: LCSC
footprint NTC0603 (Chip Resistor, 2-Leads, Body 1.60x0.80mm, IPC Medium Density)
pins: 1, 2

## NDT3055L
designator Q?
NMOS; Supplier 1: LCSC; Supplier Part Number 1: C274612
footprint SOT-223 (SOT223, 4-Leads, Body 6.50x7.00mm (avg), Pitch 2.30mm, IPC High Density)
pins: 1 G, 2 D, 3 S, 4 D

## OK252032768KJBA4SL
designator Y?  value 32.768KHz
XTAL; Supplier 1: LCSC; Supplier Part Number 1: C669098
footprint OK252032768KJBA4SL
pins: 1 ED, 2 GND, 3 OUT, 4 VDD

## OT252025MJBA4SL
designator Y?  value 25MHz
XTAL; Supplier 1: LCSC; Supplier Part Number 1: C717683
footprint OT252025MJBA4SL
pins: 1 ED, 2 GND, 3 OUT, 4 VDD

## PESD1LIN
designator D?
TVS/ESD - 1 ch, 15V, 18.9V, 13pF@1MHz, 10KV; Supplier 1: LCSC; Supplier Part Number 1: C58901
footprint PESD1LIN1 (SOIC, 2-Leads, Body 1.25x1.70mm, Pitch 1.27mm, IPC High Density)
pins: 1, 2

## PESD3V3L1BA
designator D?  (value not drawn)
TVS/ESD - 1 ch, 3.3V, 4V, 100pF@1MHz, 30KV; Supplier 1: LCSC; Supplier Part Number 1: C2687129
footprint PESD3V3L1BA (TSOP, 2-Leads, Body 1.25x1.70mm, Pitch 0.80mm, IPC Medium Density)
pins: 1, 2

## PESD5V0H1BSF
designator D?
TVS/ESD - 1 ch, 5V, 6V, 0.15pF@1MHz, 15KV; Supplier 1: LCSC; Supplier Part Number 1: C477989
footprint PESD5V0H1BSF (DFN, 2-Leads, Body 0.30x0.60mm, Pitch 0.40mm, IPC Medium Density)
pins: 1, 2

## PMEG6020ETR
designator D?
SCHOTTKY; Supplier 1: LCSC; Supplier Part Number 1: C552942
footprint PMEG6020ETR (SODFL, 2-Leads, Body 1.70x3.50mm, IPC High Density)
pins: 1, 2

## POSHOLE
designator POSHOLE?
footprint POSHOLE-3.2 (3.2mm hole)
footprint POSHOLE-2.6 (2.6mm hole)

## PS2801-4
designator U?
OPTICAL COUPLER; Supplier 1: LCSC; Supplier Part Number 1: C89880
footprint PS2801-4 (SOP, 16-Leads, Body 10.28x4.40mm, Pitch 1.27mm, IPC High Density)
pins: 1, 2, 3, 4, 5, 6, 7, 8, 9, 10, 11, 12, 13, 14, 15, 16

## PUMD3
designator Q?
NPN+PNP; Supplier 1: LCSC; Supplier Part Number 1: C193527
footprint PUMD3 (SOT23, 6-Leads, Body 2.00x2.10mm, Pitch 0.65mm, IPC High Density)
part A pins: 1 E, 2 B, 6 C
part B pins: 3 C, 4 E, 5 B

## PUSB3FR4Z
designator U?
TVS/ESD - 4 ch, 3.3V, 5.5V, 0.29pF@1MHz, 15KV; Supplier 1: LCSC; Supplier Part Number 1: C503418
footprint PUSB3FR4Z (PSON, 10-Leads, Body 2.50x1.00mm, Pitch 0.50mm, IPC Medium Density)
pins: 1 CH1, 2 CH2, 3 GND, 4 CH3, 5 CH4, 6 NC, 7 NC, 8 GND, 9 NC, 10 NC

## R
designator R?  value 1K
precision: 1%
footprint R2512 (Chip Resistor, 2-Leads, Body 6.35x3.20mm, IPC Medium Density)
footprint R0201 (Chip Resistor, 2-Leads, Body 0.60x0.30mm, IPC High Density)
footprint R01005 (Chip Resistor, 2-Leads, Body 0.40x0.20mm, IPC High Density)
footprint R2010 (Chip Resistor, 2-Leads, Body 5.00x2.50mm, IPC Medium Density)
footprint R1210 (Chip Resistor, 2-Leads, Body 3.10x2.60mm, IPC Medium Density)
footprint R0402 (Chip Resistor, 2-Leads, Body 1.00x0.50mm, IPC Medium Density)
footprint R0603 (Chip Resistor, 2-Leads, Body 1.60x0.80mm, IPC Medium Density)
footprint R0805 (Chip Resistor, 2-Leads, Body 2.00x1.27mm, IPC Medium Density)
footprint R1206 (Chip Resistor, 2-Leads, Body 3.10x1.58mm, IPC Medium Density)
footprint R1812 (Chip Resistor, 2-Leads, Body 4.50x3.20mm, IPC Medium Density)
pins: 1, 2

## RB521S30T1G
designator D?  (value not drawn)
SCHOTTKY; Supplier 1: LCSC; Supplier Part Number 1: C145179
footprint RB521S30T1G (SODFL, 2-Leads, Body 0.80x1.60mm, IPC High Density)
pins: 1, 2

## RJ45-UP
designator J?  (value not drawn)
RJ45; Supplier 1: LCSC; Supplier Part Number 1: C2683357; Supplier Part Number 2: C501471; Supplier Part Number 3: C17701309; Supplier 2: LCSC; Supplier 3: LCSC
footprint RJ45-UP
footprint RJ45-SMD
pins: 1, 2, 3, 4, 5, 6, 7, 8, SH1, SH2

## RL
designator RL?  value 1K
precision: 1%
footprint R0603
footprint R0402
footprint R1812
footprint R2512 (Chip Resistor, 2-Leads, Body 6.35x3.20mm, IPC High Density)
pins: 1, 2

## RSX501LAM20TR
designator D?
SCHOTTKY; Supplier 1: LCSC; Supplier Part Number 1: C253526
footprint RSX501LAM20TR (SODFL, 2-Leads, Body 2.50x4.70mm, IPC High Density)
pins: 1, 2

## SHIELDSUPPORT
designator SH?  (value not drawn)
footprint SHIELDSUPPORT1 (YS0073A1 L4.4xW0.8xH0.8 0.2)
pins: SH

## SIT8008-12Mhz
designator X?, comment SIT8008-12MHz
XTAL; Supplier 1: LCSC; Supplier Part Number 1: C382483
footprint OSC3225
pins: 1 OE, 2 GND, 3 OUT, 4 VDD

## SK2301AAT
designator Q?
PMOS; Supplier 1: LCSC; Supplier Part Number 1: C5334586
footprint SK2301AAT (SOT23, 3-Leads, Body 1.60x1.55mm, Pitch 0.50mm, IPC Medium Density)
pins: D, G, S

## SMAJ15CA
designator D?  (value not drawn)
TVS/ESD - 1 ch, 15V, 17.6V, 24.4V@16.4A; Supplier 1: LCSC; Supplier Part Number 1: C110044
footprint SMAJ15CA (Molded Diode, 2-Leads, Body 4.25x2.60mm, IPC Medium Density)
pins: 1, 2

## SMAJ33CA
designator D?  (value not drawn)
TVS/ESD - 1 ch, 33V, 38.65V, 53.3V@7.5A; Supplier 1: LCSC; Supplier Part Number 1: C115251
footprint SMAJ33CA (Molded Diode, 2-Leads, Body 5.00x2.67mm, IPC Medium Density)
pins: 1, 2

## SMBJ15CA
designator D?  (value not drawn)
TVS/ESD - 1 ch, 15V, 17.6V, 24.4V@24.6A; Supplier 1: LCSC; Supplier Part Number 1: C113989
footprint SMBJ15CA (Molded Diode, 2-Leads, Body 4.38x3.63mm, IPC Medium Density)
pins: 1, 2

## SMF5.0CA
designator D?  (value not drawn)
TVS/ESD - 1 ch, 5V, 6.7V, 9.2V@21.7A; Supplier 1: LCSC; Supplier Part Number 1: C364279
footprint SMF5.0CA (SODFL, 2-Leads, Body 2.70x1.75mm, IPC Medium Density)
pins: 1, 2

## SMF15CA
designator D?  (value not drawn)
TVS/ESD - 1 ch, 15V, 17.6V, 24.4V@8.2A; Supplier 1: LCSC; Supplier Part Number 1: C123803
footprint SMF15CA (SODFL, 2-Leads, Body 1.80x3.73mm, IPC Medium Density)
pins: 1, 2

## SN74AVC4T245RSVR
designator U?
LEVEL SHIFT - 4bits, 2grps, 1.2V - 3.6V, 380Mbps; Supplier 1: LCSC; Supplier Part Number 1: C133244
footprint SN74AVC4T245RSVR (QFN, 16-Leads, Body 1.80x2.60mm, Pitch 0.40mm, IPC Medium Density)
pins: 1 ~{1OE}, 2 VCCB, 3 VCCA, 4 1DIR, 5 2DIR, 6 1A1, 7 1A2, 8 2A1, 9 2A2, 10 GND, 11 GND, 12 2B2, 13 2B1, 14 1B2, 15 1B1, 16 ~{2OE}

## SN74AVCH2T45DCUR
designator U?
LEVEL SHIFT; Supplier 1: LCSC; Supplier Part Number 1: C485523
footprint SN74AVCH2T45DCUR (TSSOP, 8-Leads, Body 2.00x2.30mm, Pitch 0.50mm, IPC Medium Density)
pins: 1 VCCA, 2 A1, 3 A2, 4 GND, 5 DIR, 6 B2, 7 B1, 8 VCCB

## SN74AVCH16T245GR
designator U?
LEVEL SHIFT; Supplier 1: LCSC; Supplier Part Number 1: C181413
footprint SN74AVCH16T245GR (TSSOP, 48-Leads, Body 12.50x6.10mm, Pitch 0.50mm, IPC Medium Density)
pins: 1 1DIR, 2 1B1, 3 1B2, 4 GND, 5 1B3, 6 1B4, 7 VCCB, 8 1B5, 9 1B6, 10 GND, 11 1B7, 12 1B8, 13 2B1, 14 2B2, 15 GND, 16 2B3, 17 2B4, 18 VCCB, 19 2B5, 20 2B6, 21 GND, 22 2B7, 23 2B8, 24 2DIR, 25 2~{OE}, 26 2A8, 27 2A7, 28 GND, 29 2A6, 30 2A5, 31 VCCA, 32 2A4, 33 2A3, 34 GND, 35 2A2, 36 2A1, 37 1A8, 38 1A7, 39 GND, 40 1A6, 41 1A5, 42 VCCA, 43 1A4, 44 1A3, 45 GND, 46 1A2, 47 1A1, 48 1~{OE}

## SN74AXC1T45DEAR
designator U?
LEVEL SHIFT - 1bit, 0.65V - 3.6V, 500Mbps; Supplier 1: LCSC; Supplier Part Number 1: C2677436
footprint SN74AXC1T45DEAR (PSON, 6-Leads, Body 1.00x1.00mm, Pitch 0.35mm, IPC Medium Density)
pins: 1 VCCA, 2 GND, 3 A, 4 B, 5 DIR, 6 VCCB

## SN74AXC2T245RSWR
designator U?
LEVEL SHIFT - 2bits, 2grps, 1.8V - 3.3V, 380Mbps; Supplier 1: LCSC; Supplier Part Number 1: C1882550
footprint SN74AXC2T245RSWR (QFN, 10-Leads, Body 1.40x1.80mm, Pitch 0.40mm, IPC Medium Density)
pins: 1 DIR2, 2 ~{OE}, 3 GND, 4 B2, 5 B1, 6 VCCB, 7 VCCA, 8 A1, 9 A2, 10 DIR1

## SN74AXC4T774RSVR
designator U?
LEVEL SHIFT - 4bits, 4grps, 0.65V - 3.6V, 310Mbps; Supplier 1: LCSC; Supplier Part Number 1: C779392
footprint SN74AXC4T774RSVR (QFN, 16-Leads, Body 1.80x2.60mm, Pitch 0.40mm, IPC Medium Density)
pins: 1 A1, 2 A2, 3 A3, 4 A4, 5 DIR3, 6 DIR4, 7 ~{OE} "\OE\", 8 GND, 9 B4, 10 B3, 11 B2, 12 B1, 13 VCCB, 14 VCCA, 15 DIR1, 16 DIR2

## SN74LVC1G08DBVR
designator U?
AND GATE  - 1bit; Supplier 1: LCSC; Supplier Part Number 1: C7666
footprint SN74LVC1G08DBVR (SOT23, 5-Leads, Body 2.90x2.80mm, Pitch 0.95mm, IPC High Density)
part A pins: 1 A, 2 B, 4 Y
part B pins: 3 GND, 5 VCC
part A text: &

## SN74LVC1G08DCKR
designator U?
AND GATE  - 1bit; Supplier 1: LCSC; Supplier Part Number 1: C7832
footprint SN74LVC1G08DCKR (SOT23, 5-Leads, Body 2.00x2.10mm, Pitch 0.65mm, IPC Medium Density)
part A pins: 1 A, 2 B, 4 Y
part B pins: 3 GND, 5 VCC
part A text: &

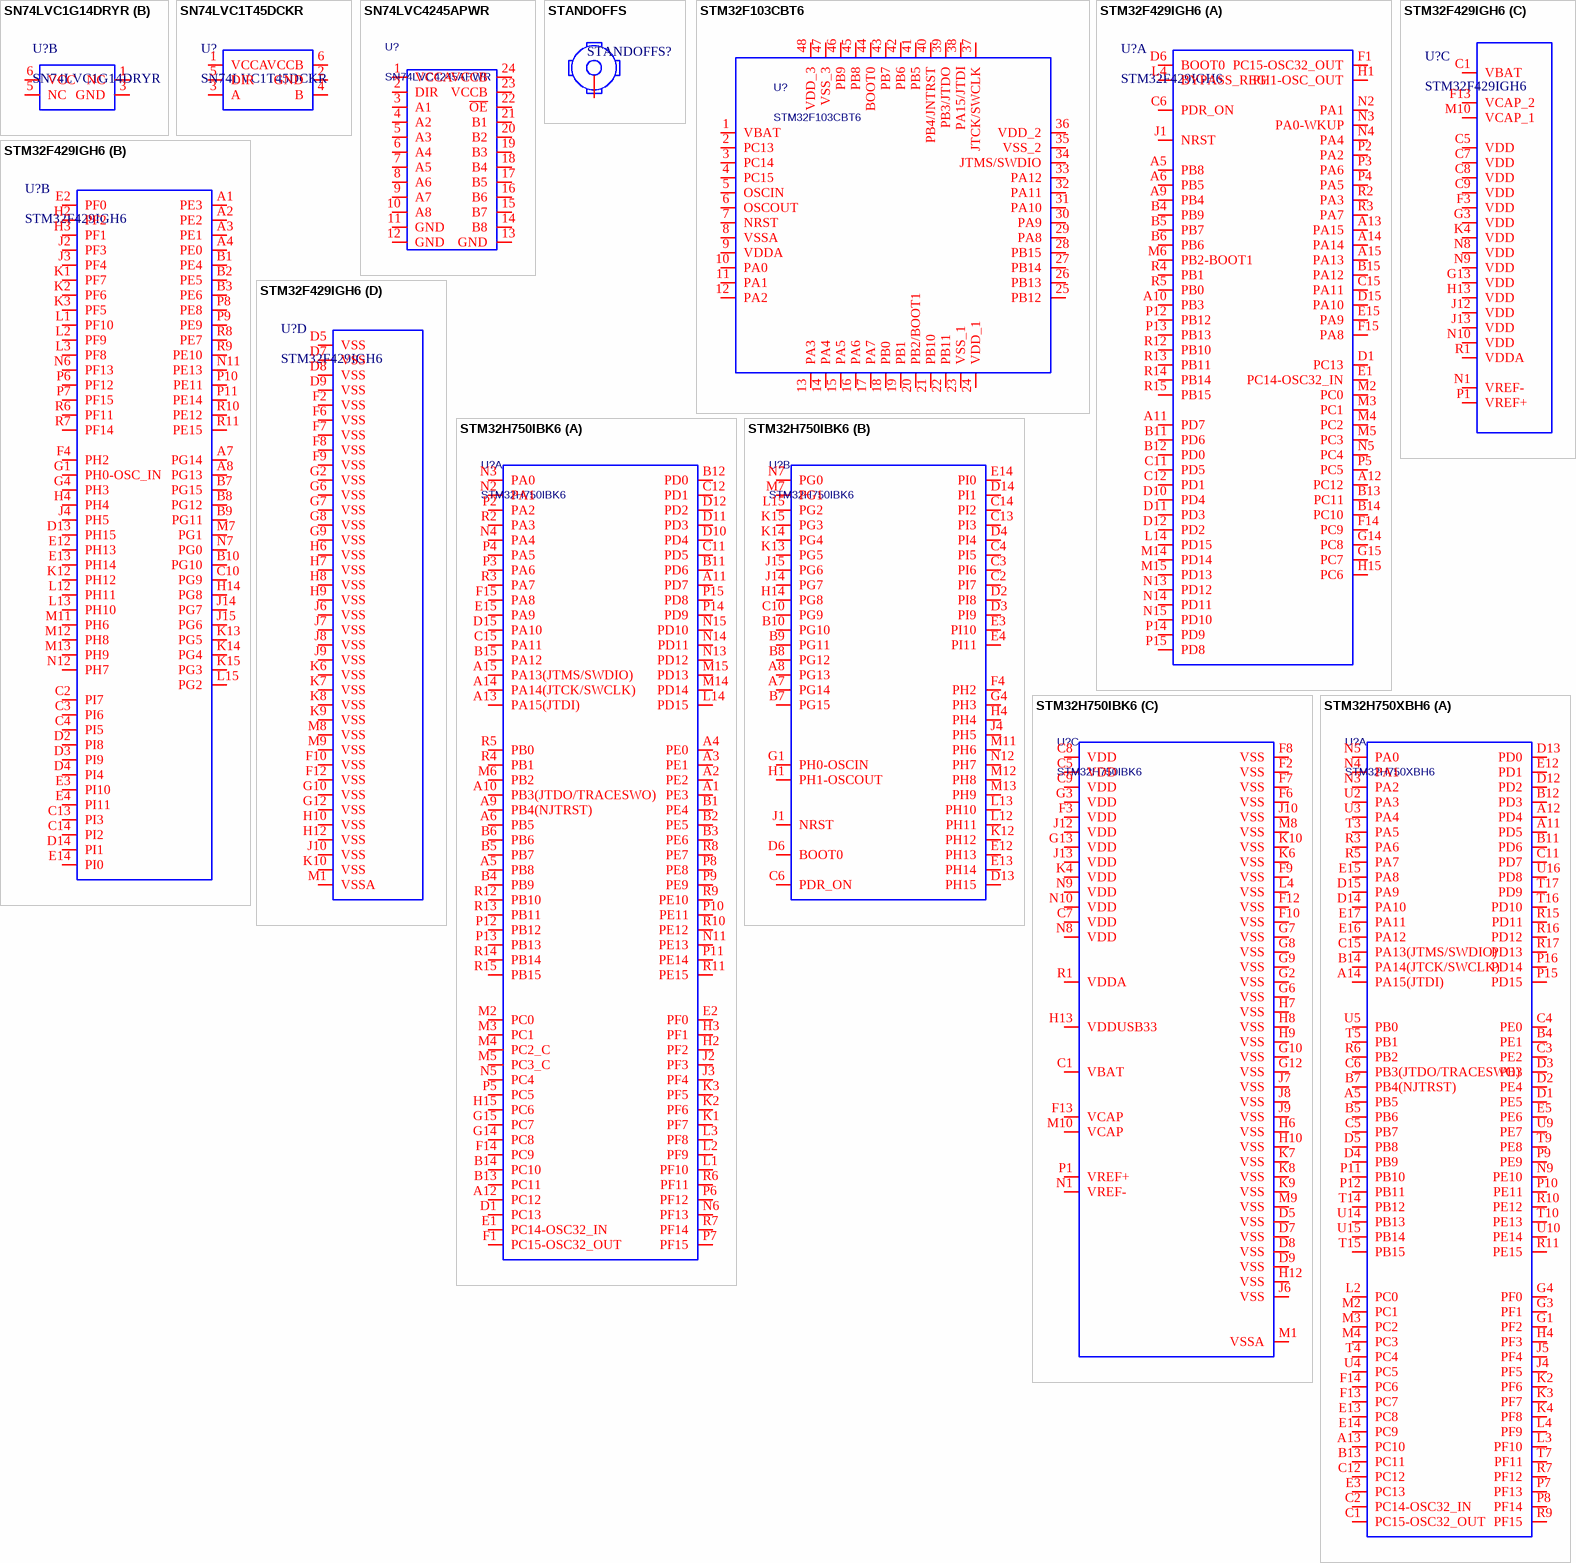
[diagram p5: symbols SN74LVC1G14DRYR to STM32H750XBH6]